# Altium schematic symbol library SparkFun-Switches.SCHLIB: 119 symbols (part 2 of 4)
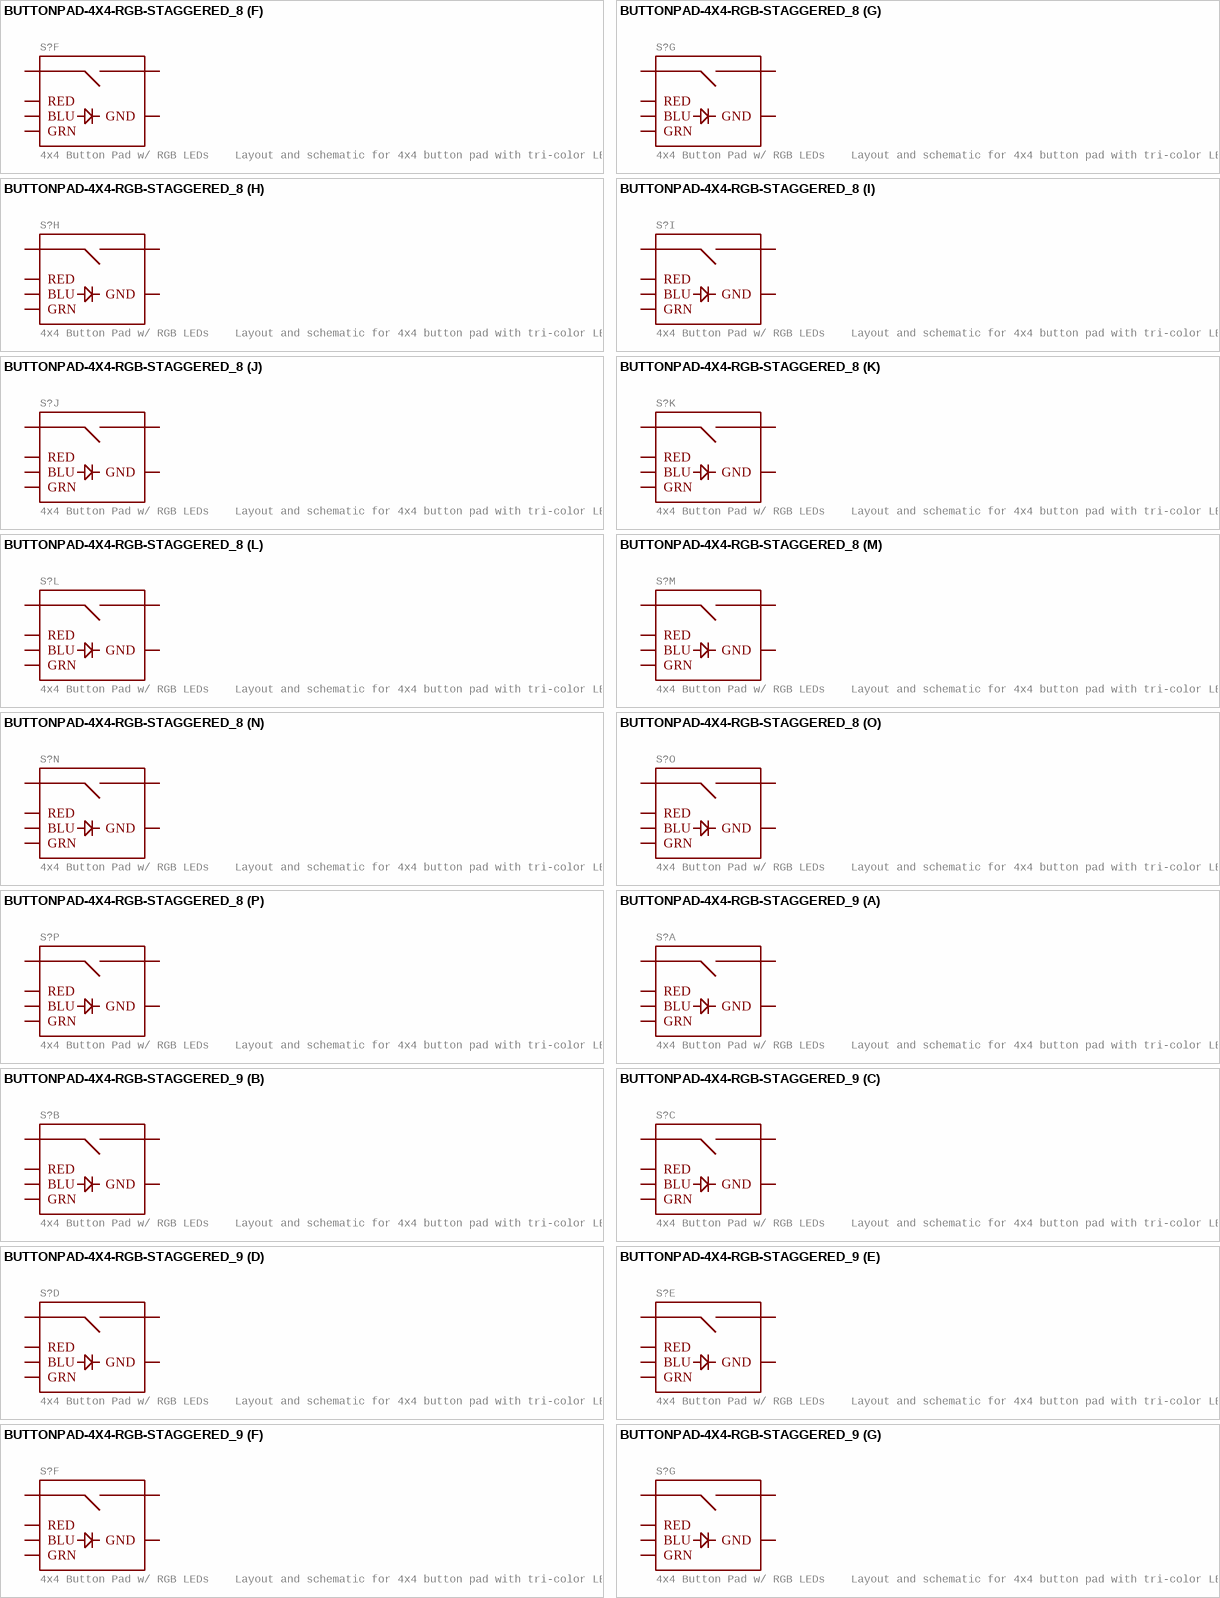
[diagram p36: symbols BUTTONPAD-4X4-RGB-STAGGERED_8 to BUTTONPAD-4X4-RGB-STAGGERED_9]

## BUTTONPAD-4X4-RGB-STAGGERED_8
designator S?, comment 4x4 Button Pad w/ RGB LEDs    Layout and schematic for 4x4 button pad with tri-color LEDs under each button. For use with the 4x Button Pad 2x2 - LED Compatible and 4x Button Pad 2x2 Top Bezel.   Any RGB 5mm LED should be compatible. SparkFun Products  SparkFun Simon Says - Through-Hole Soldering Kit (KIT-10547)  Button Pad 2x2 - Breakout PCB (COM-09277)
GateName_1: G$0; SymbolName_1: BUTTONPAD-RGB; GateName_2: G$1; GateName_3: G$2; GateName_4: G$3; GateName_5: G$4; GateName_6: G$5; GateName_7: G$6; GateName_8: G$7; GateName_9: G$8; GateName_10: G$9; GateName_11: G$10; GateName_12: G$11; GateName_13: G$12; GateName_14: G$13; GateName_15: G$14; GateName_16: G$15; DeviceName: -STAGGERED; DeviceSetName: BUTTONPAD-4X4-RGB; PROD_ID: COMP-08481; SF_SKU: COM-07836; SymbolName_2: BUTTONPAD-RGB; SymbolName_3: BUTTONPAD-RGB; SymbolName_4: BUTTONPAD-RGB; SymbolName_5: BUTTONPAD-RGB; SymbolName_6: BUTTONPAD-RGB; SymbolName_7: BUTTONPAD-RGB; SymbolName_8: BUTTONPAD-RGB; SymbolName_9: BUTTONPAD-RGB; SymbolName_10: BUTTONPAD-RGB; SymbolName_11: BUTTONPAD-RGB; SymbolName_12: BUTTONPAD-RGB; SymbolName_13: BUTTONPAD-RGB; SymbolName_14: BUTTONPAD-RGB; SymbolName_15: BUTTONPAD-RGB; SymbolName_16: BUTTONPAD-RGB; LibraryName: SparkFun-Switches; Package: BUTTONPAD-4X4-STAGGERED
footprint BUTTONPAD-4X4-STAGGERED
part A pins: BLU0 BLU (io), GND0 GND (io), GRN0 GRN (io), RED0 RED (io), SIG0 SIG1 (io), SIG1 SIG2 (io)
part B pins: BLU1 BLU (io), GND1 GND (io), GRN1 GRN (io), RED1 RED (io), SIG2 SIG1 (io), SIG3 SIG2 (io)
part C pins: BLU2 BLU (io), GND2 GND (io), GRN2 GRN (io), RED2 RED (io), SIG4 SIG1 (io), SIG5 SIG2 (io)
part D pins: BLU3 BLU (io), GND3 GND (io), GRN3 GRN (io), RED3 RED (io), SIG6 SIG1 (io), SIG7 SIG2 (io)
part E pins: BLU4 BLU (io), GND4 GND (io), GRN4 GRN (io), RED4 RED (io), SIG8 SIG1 (io), SIG9 SIG2 (io)
part F pins: BLU5 BLU (io), GND5 GND (io), GRN6 GRN (io), RED5 RED (io), SIG10 SIG1 (io), SIG11 SIG2 (io)
part G pins: BLU6 BLU (io), GND6 GND (io), GRN5 GRN (io), RED6 RED (io), SIG12 SIG1 (io), SIG13 SIG2 (io)
part H pins: BLU7 BLU (io), GND7 GND (io), GRN7 GRN (io), RED7 RED (io), SIG14 SIG1 (io), SIG15 SIG2 (io)
part I pins: BLU8 BLU (io), GND8 GND (io), GRN8 GRN (io), RED8 RED (io), SIG16 SIG1 (io), SIG17 SIG2 (io)
part J pins: BLU9 BLU (io), GND9 GND (io), GRN9 GRN (io), RED9 RED (io), SIG18 SIG1 (io), SIG19 SIG2 (io)
part K pins: BLU10 BLU (io), GND10 GND (io), GRN10 GRN (io), RED10 RED (io), SIG20 SIG1 (io), SIG21 SIG2 (io)
part L pins: BLU11 BLU (io), GND11 GND (io), GRN11 GRN (io), RED11 RED (io), SIG22 SIG1 (io), SIG23 SIG2 (io)
part M pins: BLU12 BLU (io), GND12 GND (io), GRN12 GRN (io), RED12 RED (io), SIG24 SIG1 (io), SIG25 SIG2 (io)
part N pins: BLU13 BLU (io), GND13 GND (io), GRN13 GRN (io), RED13 RED (io), SIG26 SIG1 (io), SIG27 SIG2 (io)
part O pins: BLU14 BLU (io), GND14 GND (io), GRN14 GRN (io), RED14 RED (io), SIG28 SIG1 (io), SIG29 SIG2 (io)
part P pins: BLU15 BLU (io), GND15 GND (io), GRN15 GRN (io), RED15 RED (io), SIG30 SIG1 (io), SIG31 SIG2 (io)

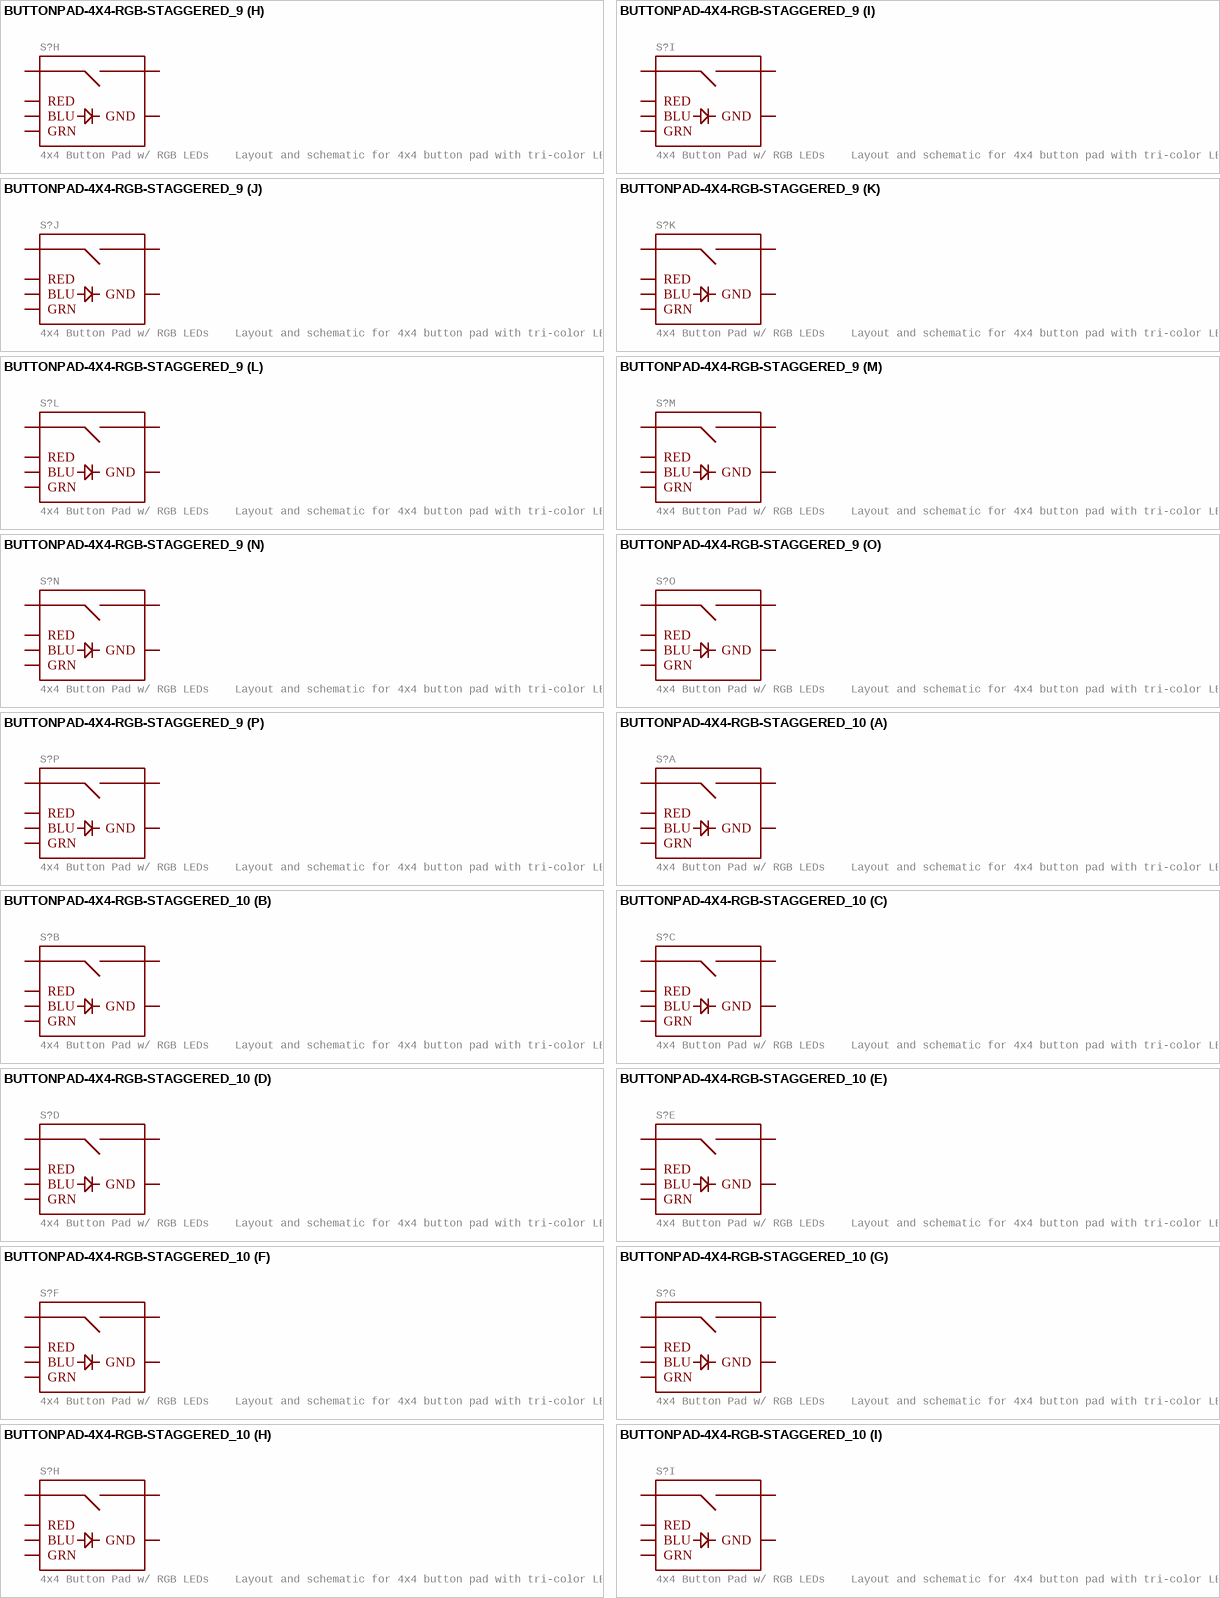
[diagram p13: symbols BUTTONPAD-4X4-RGB-STAGGERED_9 to BUTTONPAD-4X4-RGB-STAGGERED_10]

## BUTTONPAD-4X4-RGB-STAGGERED_9
designator S?, comment 4x4 Button Pad w/ RGB LEDs    Layout and schematic for 4x4 button pad with tri-color LEDs under each button. For use with the 4x Button Pad 2x2 - LED Compatible and 4x Button Pad 2x2 Top Bezel.   Any RGB 5mm LED should be compatible. SparkFun Products  SparkFun Simon Says - Through-Hole Soldering Kit (KIT-10547)  Button Pad 2x2 - Breakout PCB (COM-09277)
GateName_1: G$0; SymbolName_1: BUTTONPAD-RGB; GateName_2: G$1; GateName_3: G$2; GateName_4: G$3; GateName_5: G$4; GateName_6: G$5; GateName_7: G$6; GateName_8: G$7; GateName_9: G$8; GateName_10: G$9; GateName_11: G$10; GateName_12: G$11; GateName_13: G$12; GateName_14: G$13; GateName_15: G$14; GateName_16: G$15; DeviceName: -STAGGERED; DeviceSetName: BUTTONPAD-4X4-RGB; PROD_ID: COMP-08481; SF_SKU: COM-07836; SymbolName_2: BUTTONPAD-RGB; SymbolName_3: BUTTONPAD-RGB; SymbolName_4: BUTTONPAD-RGB; SymbolName_5: BUTTONPAD-RGB; SymbolName_6: BUTTONPAD-RGB; SymbolName_7: BUTTONPAD-RGB; SymbolName_8: BUTTONPAD-RGB; SymbolName_9: BUTTONPAD-RGB; SymbolName_10: BUTTONPAD-RGB; SymbolName_11: BUTTONPAD-RGB; SymbolName_12: BUTTONPAD-RGB; SymbolName_13: BUTTONPAD-RGB; SymbolName_14: BUTTONPAD-RGB; SymbolName_15: BUTTONPAD-RGB; SymbolName_16: BUTTONPAD-RGB; LibraryName: SparkFun-Switches; Package: BUTTONPAD-4X4-STAGGERED
footprint BUTTONPAD-4X4-STAGGERED
part A pins: BLU0 BLU (io), GND0 GND (io), GRN0 GRN (io), RED0 RED (io), SIG0 SIG1 (io), SIG1 SIG2 (io)
part B pins: BLU1 BLU (io), GND1 GND (io), GRN1 GRN (io), RED1 RED (io), SIG2 SIG1 (io), SIG3 SIG2 (io)
part C pins: BLU2 BLU (io), GND2 GND (io), GRN2 GRN (io), RED2 RED (io), SIG4 SIG1 (io), SIG5 SIG2 (io)
part D pins: BLU3 BLU (io), GND3 GND (io), GRN3 GRN (io), RED3 RED (io), SIG6 SIG1 (io), SIG7 SIG2 (io)
part E pins: BLU4 BLU (io), GND4 GND (io), GRN4 GRN (io), RED4 RED (io), SIG8 SIG1 (io), SIG9 SIG2 (io)
part F pins: BLU5 BLU (io), GND5 GND (io), GRN6 GRN (io), RED5 RED (io), SIG10 SIG1 (io), SIG11 SIG2 (io)
part G pins: BLU6 BLU (io), GND6 GND (io), GRN5 GRN (io), RED6 RED (io), SIG12 SIG1 (io), SIG13 SIG2 (io)
part H pins: BLU7 BLU (io), GND7 GND (io), GRN7 GRN (io), RED7 RED (io), SIG14 SIG1 (io), SIG15 SIG2 (io)
part I pins: BLU8 BLU (io), GND8 GND (io), GRN8 GRN (io), RED8 RED (io), SIG16 SIG1 (io), SIG17 SIG2 (io)
part J pins: BLU9 BLU (io), GND9 GND (io), GRN9 GRN (io), RED9 RED (io), SIG18 SIG1 (io), SIG19 SIG2 (io)
part K pins: BLU10 BLU (io), GND10 GND (io), GRN10 GRN (io), RED10 RED (io), SIG20 SIG1 (io), SIG21 SIG2 (io)
part L pins: BLU11 BLU (io), GND11 GND (io), GRN11 GRN (io), RED11 RED (io), SIG22 SIG1 (io), SIG23 SIG2 (io)
part M pins: BLU12 BLU (io), GND12 GND (io), GRN12 GRN (io), RED12 RED (io), SIG24 SIG1 (io), SIG25 SIG2 (io)
part N pins: BLU13 BLU (io), GND13 GND (io), GRN13 GRN (io), RED13 RED (io), SIG26 SIG1 (io), SIG27 SIG2 (io)
part O pins: BLU14 BLU (io), GND14 GND (io), GRN14 GRN (io), RED14 RED (io), SIG28 SIG1 (io), SIG29 SIG2 (io)
part P pins: BLU15 BLU (io), GND15 GND (io), GRN15 GRN (io), RED15 RED (io), SIG30 SIG1 (io), SIG31 SIG2 (io)

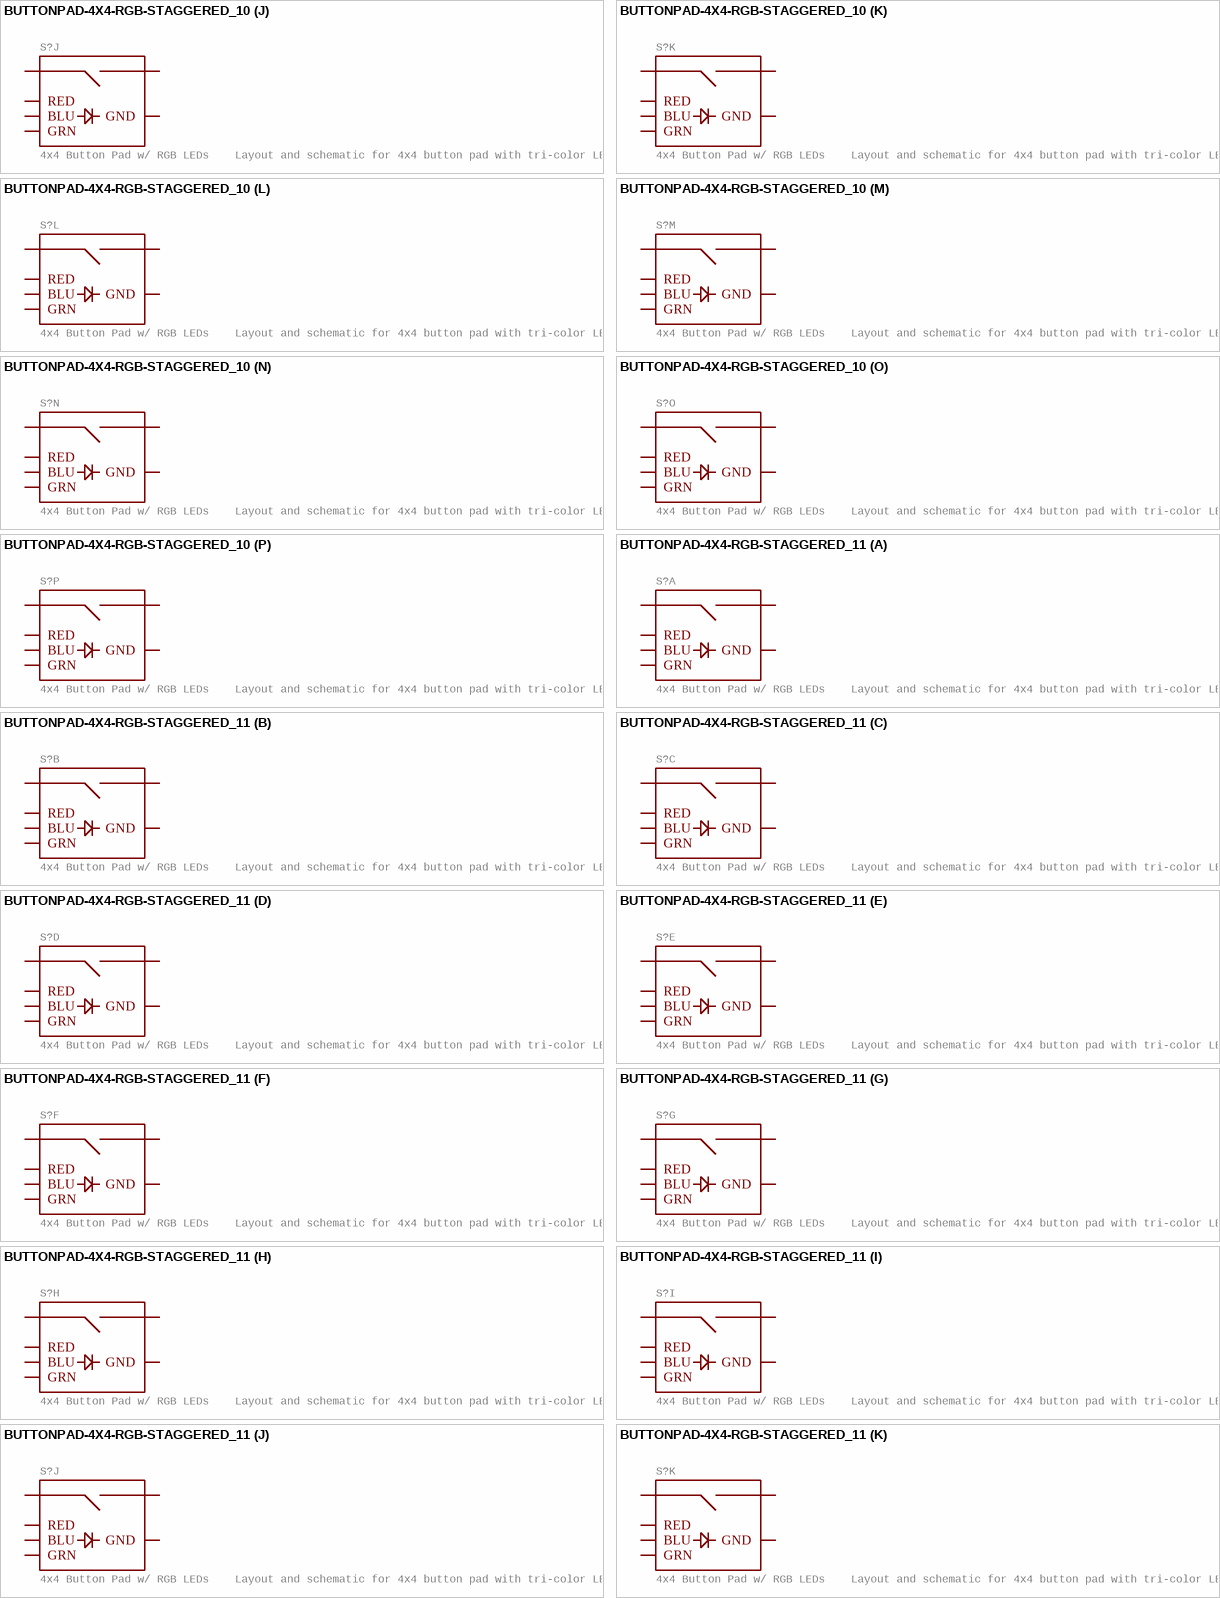
[diagram p14: symbols BUTTONPAD-4X4-RGB-STAGGERED_10 to BUTTONPAD-4X4-RGB-STAGGERED_11]

## BUTTONPAD-4X4-RGB-STAGGERED_10
designator S?, comment 4x4 Button Pad w/ RGB LEDs    Layout and schematic for 4x4 button pad with tri-color LEDs under each button. For use with the 4x Button Pad 2x2 - LED Compatible and 4x Button Pad 2x2 Top Bezel.   Any RGB 5mm LED should be compatible. SparkFun Products  SparkFun Simon Says - Through-Hole Soldering Kit (KIT-10547)  Button Pad 2x2 - Breakout PCB (COM-09277)
GateName_1: G$0; SymbolName_1: BUTTONPAD-RGB; GateName_2: G$1; GateName_3: G$2; GateName_4: G$3; GateName_5: G$4; GateName_6: G$5; GateName_7: G$6; GateName_8: G$7; GateName_9: G$8; GateName_10: G$9; GateName_11: G$10; GateName_12: G$11; GateName_13: G$12; GateName_14: G$13; GateName_15: G$14; GateName_16: G$15; DeviceName: -STAGGERED; DeviceSetName: BUTTONPAD-4X4-RGB; PROD_ID: COMP-08481; SF_SKU: COM-07836; SymbolName_2: BUTTONPAD-RGB; SymbolName_3: BUTTONPAD-RGB; SymbolName_4: BUTTONPAD-RGB; SymbolName_5: BUTTONPAD-RGB; SymbolName_6: BUTTONPAD-RGB; SymbolName_7: BUTTONPAD-RGB; SymbolName_8: BUTTONPAD-RGB; SymbolName_9: BUTTONPAD-RGB; SymbolName_10: BUTTONPAD-RGB; SymbolName_11: BUTTONPAD-RGB; SymbolName_12: BUTTONPAD-RGB; SymbolName_13: BUTTONPAD-RGB; SymbolName_14: BUTTONPAD-RGB; SymbolName_15: BUTTONPAD-RGB; SymbolName_16: BUTTONPAD-RGB; LibraryName: SparkFun-Switches; Package: BUTTONPAD-4X4-STAGGERED
footprint BUTTONPAD-4X4-STAGGERED
part A pins: BLU0 BLU (io), GND0 GND (io), GRN0 GRN (io), RED0 RED (io), SIG0 SIG1 (io), SIG1 SIG2 (io)
part B pins: BLU1 BLU (io), GND1 GND (io), GRN1 GRN (io), RED1 RED (io), SIG2 SIG1 (io), SIG3 SIG2 (io)
part C pins: BLU2 BLU (io), GND2 GND (io), GRN2 GRN (io), RED2 RED (io), SIG4 SIG1 (io), SIG5 SIG2 (io)
part D pins: BLU3 BLU (io), GND3 GND (io), GRN3 GRN (io), RED3 RED (io), SIG6 SIG1 (io), SIG7 SIG2 (io)
part E pins: BLU4 BLU (io), GND4 GND (io), GRN4 GRN (io), RED4 RED (io), SIG8 SIG1 (io), SIG9 SIG2 (io)
part F pins: BLU5 BLU (io), GND5 GND (io), GRN6 GRN (io), RED5 RED (io), SIG10 SIG1 (io), SIG11 SIG2 (io)
part G pins: BLU6 BLU (io), GND6 GND (io), GRN5 GRN (io), RED6 RED (io), SIG12 SIG1 (io), SIG13 SIG2 (io)
part H pins: BLU7 BLU (io), GND7 GND (io), GRN7 GRN (io), RED7 RED (io), SIG14 SIG1 (io), SIG15 SIG2 (io)
part I pins: BLU8 BLU (io), GND8 GND (io), GRN8 GRN (io), RED8 RED (io), SIG16 SIG1 (io), SIG17 SIG2 (io)
part J pins: BLU9 BLU (io), GND9 GND (io), GRN9 GRN (io), RED9 RED (io), SIG18 SIG1 (io), SIG19 SIG2 (io)
part K pins: BLU10 BLU (io), GND10 GND (io), GRN10 GRN (io), RED10 RED (io), SIG20 SIG1 (io), SIG21 SIG2 (io)
part L pins: BLU11 BLU (io), GND11 GND (io), GRN11 GRN (io), RED11 RED (io), SIG22 SIG1 (io), SIG23 SIG2 (io)
part M pins: BLU12 BLU (io), GND12 GND (io), GRN12 GRN (io), RED12 RED (io), SIG24 SIG1 (io), SIG25 SIG2 (io)
part N pins: BLU13 BLU (io), GND13 GND (io), GRN13 GRN (io), RED13 RED (io), SIG26 SIG1 (io), SIG27 SIG2 (io)
part O pins: BLU14 BLU (io), GND14 GND (io), GRN14 GRN (io), RED14 RED (io), SIG28 SIG1 (io), SIG29 SIG2 (io)
part P pins: BLU15 BLU (io), GND15 GND (io), GRN15 GRN (io), RED15 RED (io), SIG30 SIG1 (io), SIG31 SIG2 (io)

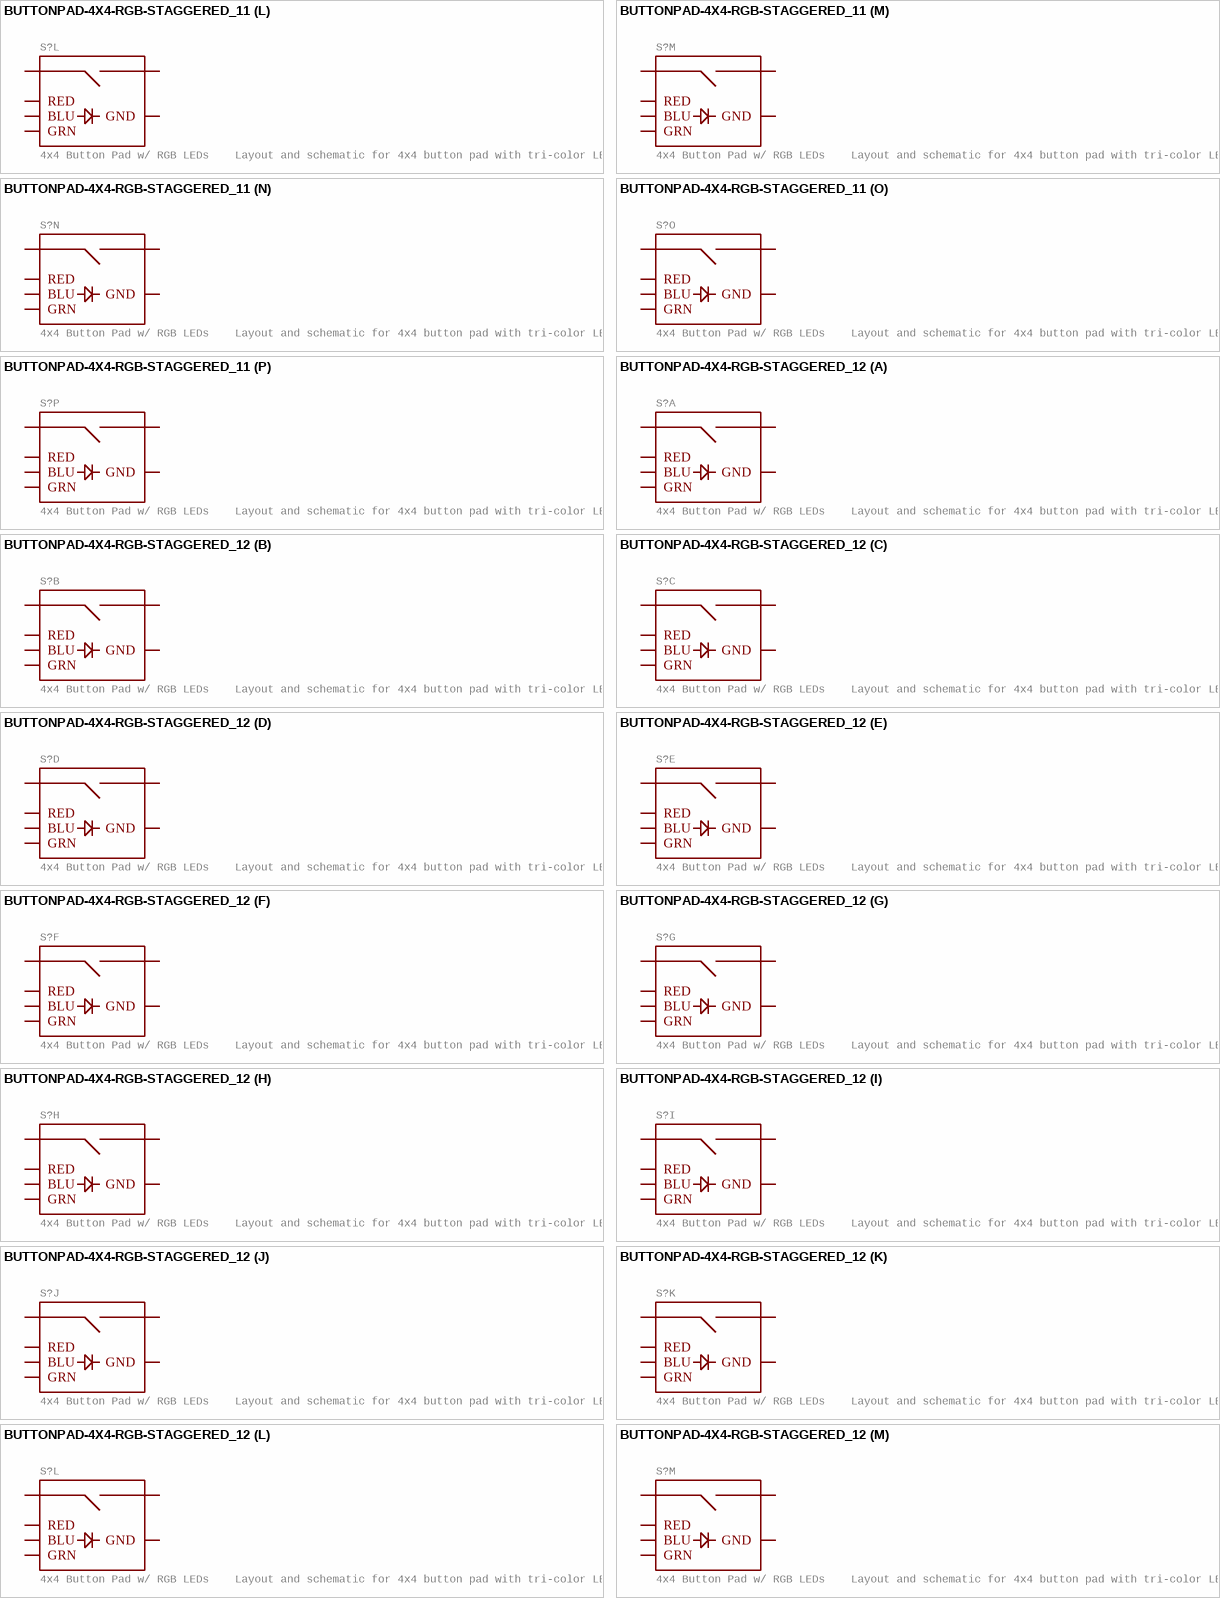
[diagram p15: symbols BUTTONPAD-4X4-RGB-STAGGERED_11 to BUTTONPAD-4X4-RGB-STAGGERED_12]

## BUTTONPAD-4X4-RGB-STAGGERED_11
designator S?, comment 4x4 Button Pad w/ RGB LEDs    Layout and schematic for 4x4 button pad with tri-color LEDs under each button. For use with the 4x Button Pad 2x2 - LED Compatible and 4x Button Pad 2x2 Top Bezel.   Any RGB 5mm LED should be compatible. SparkFun Products  SparkFun Simon Says - Through-Hole Soldering Kit (KIT-10547)  Button Pad 2x2 - Breakout PCB (COM-09277)
GateName_1: G$0; SymbolName_1: BUTTONPAD-RGB; GateName_2: G$1; GateName_3: G$2; GateName_4: G$3; GateName_5: G$4; GateName_6: G$5; GateName_7: G$6; GateName_8: G$7; GateName_9: G$8; GateName_10: G$9; GateName_11: G$10; GateName_12: G$11; GateName_13: G$12; GateName_14: G$13; GateName_15: G$14; GateName_16: G$15; DeviceName: -STAGGERED; DeviceSetName: BUTTONPAD-4X4-RGB; PROD_ID: COMP-08481; SF_SKU: COM-07836; SymbolName_2: BUTTONPAD-RGB; SymbolName_3: BUTTONPAD-RGB; SymbolName_4: BUTTONPAD-RGB; SymbolName_5: BUTTONPAD-RGB; SymbolName_6: BUTTONPAD-RGB; SymbolName_7: BUTTONPAD-RGB; SymbolName_8: BUTTONPAD-RGB; SymbolName_9: BUTTONPAD-RGB; SymbolName_10: BUTTONPAD-RGB; SymbolName_11: BUTTONPAD-RGB; SymbolName_12: BUTTONPAD-RGB; SymbolName_13: BUTTONPAD-RGB; SymbolName_14: BUTTONPAD-RGB; SymbolName_15: BUTTONPAD-RGB; SymbolName_16: BUTTONPAD-RGB; LibraryName: SparkFun-Switches; Package: BUTTONPAD-4X4-STAGGERED
footprint BUTTONPAD-4X4-STAGGERED
part A pins: BLU0 BLU (io), GND0 GND (io), GRN0 GRN (io), RED0 RED (io), SIG0 SIG1 (io), SIG1 SIG2 (io)
part B pins: BLU1 BLU (io), GND1 GND (io), GRN1 GRN (io), RED1 RED (io), SIG2 SIG1 (io), SIG3 SIG2 (io)
part C pins: BLU2 BLU (io), GND2 GND (io), GRN2 GRN (io), RED2 RED (io), SIG4 SIG1 (io), SIG5 SIG2 (io)
part D pins: BLU3 BLU (io), GND3 GND (io), GRN3 GRN (io), RED3 RED (io), SIG6 SIG1 (io), SIG7 SIG2 (io)
part E pins: BLU4 BLU (io), GND4 GND (io), GRN4 GRN (io), RED4 RED (io), SIG8 SIG1 (io), SIG9 SIG2 (io)
part F pins: BLU5 BLU (io), GND5 GND (io), GRN6 GRN (io), RED5 RED (io), SIG10 SIG1 (io), SIG11 SIG2 (io)
part G pins: BLU6 BLU (io), GND6 GND (io), GRN5 GRN (io), RED6 RED (io), SIG12 SIG1 (io), SIG13 SIG2 (io)
part H pins: BLU7 BLU (io), GND7 GND (io), GRN7 GRN (io), RED7 RED (io), SIG14 SIG1 (io), SIG15 SIG2 (io)
part I pins: BLU8 BLU (io), GND8 GND (io), GRN8 GRN (io), RED8 RED (io), SIG16 SIG1 (io), SIG17 SIG2 (io)
part J pins: BLU9 BLU (io), GND9 GND (io), GRN9 GRN (io), RED9 RED (io), SIG18 SIG1 (io), SIG19 SIG2 (io)
part K pins: BLU10 BLU (io), GND10 GND (io), GRN10 GRN (io), RED10 RED (io), SIG20 SIG1 (io), SIG21 SIG2 (io)
part L pins: BLU11 BLU (io), GND11 GND (io), GRN11 GRN (io), RED11 RED (io), SIG22 SIG1 (io), SIG23 SIG2 (io)
part M pins: BLU12 BLU (io), GND12 GND (io), GRN12 GRN (io), RED12 RED (io), SIG24 SIG1 (io), SIG25 SIG2 (io)
part N pins: BLU13 BLU (io), GND13 GND (io), GRN13 GRN (io), RED13 RED (io), SIG26 SIG1 (io), SIG27 SIG2 (io)
part O pins: BLU14 BLU (io), GND14 GND (io), GRN14 GRN (io), RED14 RED (io), SIG28 SIG1 (io), SIG29 SIG2 (io)
part P pins: BLU15 BLU (io), GND15 GND (io), GRN15 GRN (io), RED15 RED (io), SIG30 SIG1 (io), SIG31 SIG2 (io)

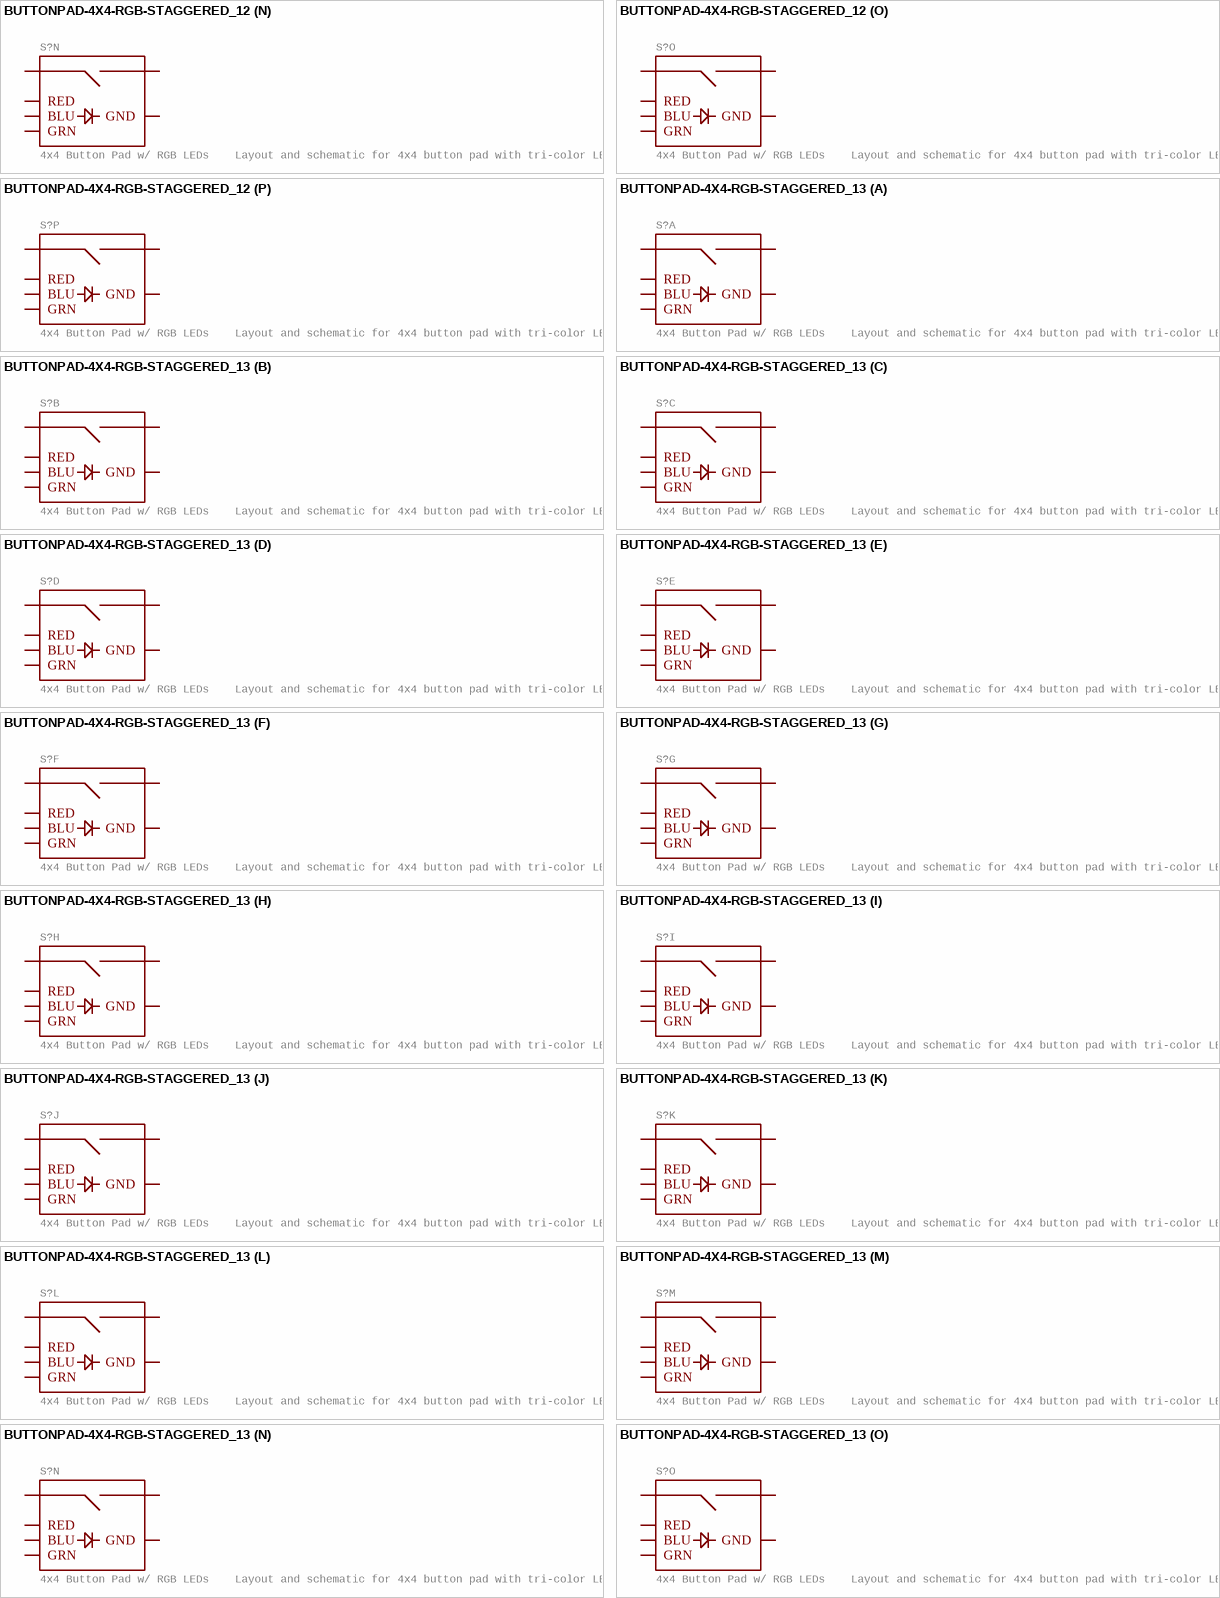
[diagram p16: symbols BUTTONPAD-4X4-RGB-STAGGERED_12 to BUTTONPAD-4X4-RGB-STAGGERED_13]

## BUTTONPAD-4X4-RGB-STAGGERED_12
designator S?, comment 4x4 Button Pad w/ RGB LEDs    Layout and schematic for 4x4 button pad with tri-color LEDs under each button. For use with the 4x Button Pad 2x2 - LED Compatible and 4x Button Pad 2x2 Top Bezel.   Any RGB 5mm LED should be compatible. SparkFun Products  SparkFun Simon Says - Through-Hole Soldering Kit (KIT-10547)  Button Pad 2x2 - Breakout PCB (COM-09277)
GateName_1: G$0; SymbolName_1: BUTTONPAD-RGB; GateName_2: G$1; GateName_3: G$2; GateName_4: G$3; GateName_5: G$4; GateName_6: G$5; GateName_7: G$6; GateName_8: G$7; GateName_9: G$8; GateName_10: G$9; GateName_11: G$10; GateName_12: G$11; GateName_13: G$12; GateName_14: G$13; GateName_15: G$14; GateName_16: G$15; DeviceName: -STAGGERED; DeviceSetName: BUTTONPAD-4X4-RGB; PROD_ID: COMP-08481; SF_SKU: COM-07836; SymbolName_2: BUTTONPAD-RGB; SymbolName_3: BUTTONPAD-RGB; SymbolName_4: BUTTONPAD-RGB; SymbolName_5: BUTTONPAD-RGB; SymbolName_6: BUTTONPAD-RGB; SymbolName_7: BUTTONPAD-RGB; SymbolName_8: BUTTONPAD-RGB; SymbolName_9: BUTTONPAD-RGB; SymbolName_10: BUTTONPAD-RGB; SymbolName_11: BUTTONPAD-RGB; SymbolName_12: BUTTONPAD-RGB; SymbolName_13: BUTTONPAD-RGB; SymbolName_14: BUTTONPAD-RGB; SymbolName_15: BUTTONPAD-RGB; SymbolName_16: BUTTONPAD-RGB; LibraryName: SparkFun-Switches; Package: BUTTONPAD-4X4-STAGGERED
footprint BUTTONPAD-4X4-STAGGERED
part A pins: BLU0 BLU (io), GND0 GND (io), GRN0 GRN (io), RED0 RED (io), SIG0 SIG1 (io), SIG1 SIG2 (io)
part B pins: BLU1 BLU (io), GND1 GND (io), GRN1 GRN (io), RED1 RED (io), SIG2 SIG1 (io), SIG3 SIG2 (io)
part C pins: BLU2 BLU (io), GND2 GND (io), GRN2 GRN (io), RED2 RED (io), SIG4 SIG1 (io), SIG5 SIG2 (io)
part D pins: BLU3 BLU (io), GND3 GND (io), GRN3 GRN (io), RED3 RED (io), SIG6 SIG1 (io), SIG7 SIG2 (io)
part E pins: BLU4 BLU (io), GND4 GND (io), GRN4 GRN (io), RED4 RED (io), SIG8 SIG1 (io), SIG9 SIG2 (io)
part F pins: BLU5 BLU (io), GND5 GND (io), GRN6 GRN (io), RED5 RED (io), SIG10 SIG1 (io), SIG11 SIG2 (io)
part G pins: BLU6 BLU (io), GND6 GND (io), GRN5 GRN (io), RED6 RED (io), SIG12 SIG1 (io), SIG13 SIG2 (io)
part H pins: BLU7 BLU (io), GND7 GND (io), GRN7 GRN (io), RED7 RED (io), SIG14 SIG1 (io), SIG15 SIG2 (io)
part I pins: BLU8 BLU (io), GND8 GND (io), GRN8 GRN (io), RED8 RED (io), SIG16 SIG1 (io), SIG17 SIG2 (io)
part J pins: BLU9 BLU (io), GND9 GND (io), GRN9 GRN (io), RED9 RED (io), SIG18 SIG1 (io), SIG19 SIG2 (io)
part K pins: BLU10 BLU (io), GND10 GND (io), GRN10 GRN (io), RED10 RED (io), SIG20 SIG1 (io), SIG21 SIG2 (io)
part L pins: BLU11 BLU (io), GND11 GND (io), GRN11 GRN (io), RED11 RED (io), SIG22 SIG1 (io), SIG23 SIG2 (io)
part M pins: BLU12 BLU (io), GND12 GND (io), GRN12 GRN (io), RED12 RED (io), SIG24 SIG1 (io), SIG25 SIG2 (io)
part N pins: BLU13 BLU (io), GND13 GND (io), GRN13 GRN (io), RED13 RED (io), SIG26 SIG1 (io), SIG27 SIG2 (io)
part O pins: BLU14 BLU (io), GND14 GND (io), GRN14 GRN (io), RED14 RED (io), SIG28 SIG1 (io), SIG29 SIG2 (io)
part P pins: BLU15 BLU (io), GND15 GND (io), GRN15 GRN (io), RED15 RED (io), SIG30 SIG1 (io), SIG31 SIG2 (io)

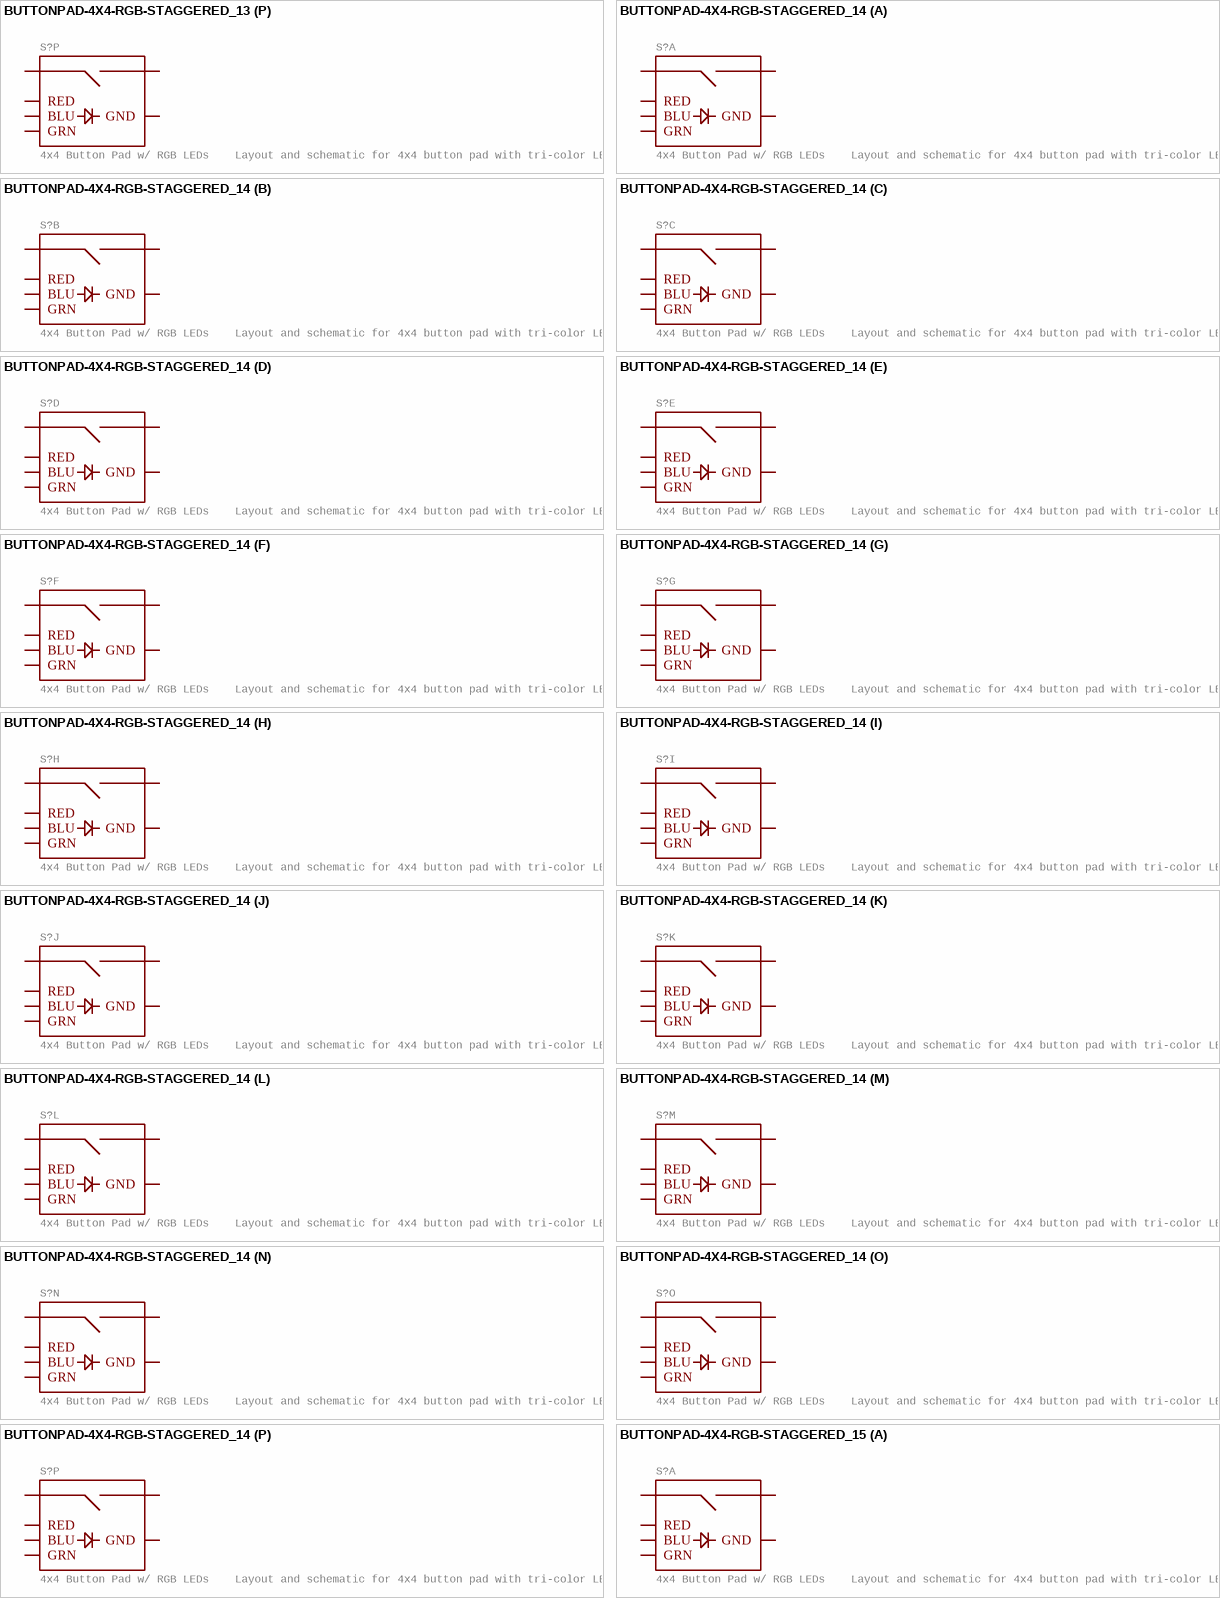
[diagram p17: symbols BUTTONPAD-4X4-RGB-STAGGERED_13 to BUTTONPAD-4X4-RGB-STAGGERED_15]

## BUTTONPAD-4X4-RGB-STAGGERED_13
designator S?, comment 4x4 Button Pad w/ RGB LEDs    Layout and schematic for 4x4 button pad with tri-color LEDs under each button. For use with the 4x Button Pad 2x2 - LED Compatible and 4x Button Pad 2x2 Top Bezel.   Any RGB 5mm LED should be compatible. SparkFun Products  SparkFun Simon Says - Through-Hole Soldering Kit (KIT-10547)  Button Pad 2x2 - Breakout PCB (COM-09277)
GateName_1: G$0; SymbolName_1: BUTTONPAD-RGB; GateName_2: G$1; GateName_3: G$2; GateName_4: G$3; GateName_5: G$4; GateName_6: G$5; GateName_7: G$6; GateName_8: G$7; GateName_9: G$8; GateName_10: G$9; GateName_11: G$10; GateName_12: G$11; GateName_13: G$12; GateName_14: G$13; GateName_15: G$14; GateName_16: G$15; DeviceName: -STAGGERED; DeviceSetName: BUTTONPAD-4X4-RGB; PROD_ID: COMP-08481; SF_SKU: COM-07836; SymbolName_2: BUTTONPAD-RGB; SymbolName_3: BUTTONPAD-RGB; SymbolName_4: BUTTONPAD-RGB; SymbolName_5: BUTTONPAD-RGB; SymbolName_6: BUTTONPAD-RGB; SymbolName_7: BUTTONPAD-RGB; SymbolName_8: BUTTONPAD-RGB; SymbolName_9: BUTTONPAD-RGB; SymbolName_10: BUTTONPAD-RGB; SymbolName_11: BUTTONPAD-RGB; SymbolName_12: BUTTONPAD-RGB; SymbolName_13: BUTTONPAD-RGB; SymbolName_14: BUTTONPAD-RGB; SymbolName_15: BUTTONPAD-RGB; SymbolName_16: BUTTONPAD-RGB; LibraryName: SparkFun-Switches; Package: BUTTONPAD-4X4-STAGGERED
footprint BUTTONPAD-4X4-STAGGERED
part A pins: BLU0 BLU (io), GND0 GND (io), GRN0 GRN (io), RED0 RED (io), SIG0 SIG1 (io), SIG1 SIG2 (io)
part B pins: BLU1 BLU (io), GND1 GND (io), GRN1 GRN (io), RED1 RED (io), SIG2 SIG1 (io), SIG3 SIG2 (io)
part C pins: BLU2 BLU (io), GND2 GND (io), GRN2 GRN (io), RED2 RED (io), SIG4 SIG1 (io), SIG5 SIG2 (io)
part D pins: BLU3 BLU (io), GND3 GND (io), GRN3 GRN (io), RED3 RED (io), SIG6 SIG1 (io), SIG7 SIG2 (io)
part E pins: BLU4 BLU (io), GND4 GND (io), GRN4 GRN (io), RED4 RED (io), SIG8 SIG1 (io), SIG9 SIG2 (io)
part F pins: BLU5 BLU (io), GND5 GND (io), GRN6 GRN (io), RED5 RED (io), SIG10 SIG1 (io), SIG11 SIG2 (io)
part G pins: BLU6 BLU (io), GND6 GND (io), GRN5 GRN (io), RED6 RED (io), SIG12 SIG1 (io), SIG13 SIG2 (io)
part H pins: BLU7 BLU (io), GND7 GND (io), GRN7 GRN (io), RED7 RED (io), SIG14 SIG1 (io), SIG15 SIG2 (io)
part I pins: BLU8 BLU (io), GND8 GND (io), GRN8 GRN (io), RED8 RED (io), SIG16 SIG1 (io), SIG17 SIG2 (io)
part J pins: BLU9 BLU (io), GND9 GND (io), GRN9 GRN (io), RED9 RED (io), SIG18 SIG1 (io), SIG19 SIG2 (io)
part K pins: BLU10 BLU (io), GND10 GND (io), GRN10 GRN (io), RED10 RED (io), SIG20 SIG1 (io), SIG21 SIG2 (io)
part L pins: BLU11 BLU (io), GND11 GND (io), GRN11 GRN (io), RED11 RED (io), SIG22 SIG1 (io), SIG23 SIG2 (io)
part M pins: BLU12 BLU (io), GND12 GND (io), GRN12 GRN (io), RED12 RED (io), SIG24 SIG1 (io), SIG25 SIG2 (io)
part N pins: BLU13 BLU (io), GND13 GND (io), GRN13 GRN (io), RED13 RED (io), SIG26 SIG1 (io), SIG27 SIG2 (io)
part O pins: BLU14 BLU (io), GND14 GND (io), GRN14 GRN (io), RED14 RED (io), SIG28 SIG1 (io), SIG29 SIG2 (io)
part P pins: BLU15 BLU (io), GND15 GND (io), GRN15 GRN (io), RED15 RED (io), SIG30 SIG1 (io), SIG31 SIG2 (io)

## BUTTONPAD-4X4-RGB-STAGGERED_14
designator S?, comment 4x4 Button Pad w/ RGB LEDs    Layout and schematic for 4x4 button pad with tri-color LEDs under each button. For use with the 4x Button Pad 2x2 - LED Compatible and 4x Button Pad 2x2 Top Bezel.   Any RGB 5mm LED should be compatible. SparkFun Products  SparkFun Simon Says - Through-Hole Soldering Kit (KIT-10547)  Button Pad 2x2 - Breakout PCB (COM-09277)
GateName_1: G$0; SymbolName_1: BUTTONPAD-RGB; GateName_2: G$1; GateName_3: G$2; GateName_4: G$3; GateName_5: G$4; GateName_6: G$5; GateName_7: G$6; GateName_8: G$7; GateName_9: G$8; GateName_10: G$9; GateName_11: G$10; GateName_12: G$11; GateName_13: G$12; GateName_14: G$13; GateName_15: G$14; GateName_16: G$15; DeviceName: -STAGGERED; DeviceSetName: BUTTONPAD-4X4-RGB; PROD_ID: COMP-08481; SF_SKU: COM-07836; SymbolName_2: BUTTONPAD-RGB; SymbolName_3: BUTTONPAD-RGB; SymbolName_4: BUTTONPAD-RGB; SymbolName_5: BUTTONPAD-RGB; SymbolName_6: BUTTONPAD-RGB; SymbolName_7: BUTTONPAD-RGB; SymbolName_8: BUTTONPAD-RGB; SymbolName_9: BUTTONPAD-RGB; SymbolName_10: BUTTONPAD-RGB; SymbolName_11: BUTTONPAD-RGB; SymbolName_12: BUTTONPAD-RGB; SymbolName_13: BUTTONPAD-RGB; SymbolName_14: BUTTONPAD-RGB; SymbolName_15: BUTTONPAD-RGB; SymbolName_16: BUTTONPAD-RGB; LibraryName: SparkFun-Switches; Package: BUTTONPAD-4X4-STAGGERED
footprint BUTTONPAD-4X4-STAGGERED
part A pins: BLU0 BLU (io), GND0 GND (io), GRN0 GRN (io), RED0 RED (io), SIG0 SIG1 (io), SIG1 SIG2 (io)
part B pins: BLU1 BLU (io), GND1 GND (io), GRN1 GRN (io), RED1 RED (io), SIG2 SIG1 (io), SIG3 SIG2 (io)
part C pins: BLU2 BLU (io), GND2 GND (io), GRN2 GRN (io), RED2 RED (io), SIG4 SIG1 (io), SIG5 SIG2 (io)
part D pins: BLU3 BLU (io), GND3 GND (io), GRN3 GRN (io), RED3 RED (io), SIG6 SIG1 (io), SIG7 SIG2 (io)
part E pins: BLU4 BLU (io), GND4 GND (io), GRN4 GRN (io), RED4 RED (io), SIG8 SIG1 (io), SIG9 SIG2 (io)
part F pins: BLU5 BLU (io), GND5 GND (io), GRN6 GRN (io), RED5 RED (io), SIG10 SIG1 (io), SIG11 SIG2 (io)
part G pins: BLU6 BLU (io), GND6 GND (io), GRN5 GRN (io), RED6 RED (io), SIG12 SIG1 (io), SIG13 SIG2 (io)
part H pins: BLU7 BLU (io), GND7 GND (io), GRN7 GRN (io), RED7 RED (io), SIG14 SIG1 (io), SIG15 SIG2 (io)
part I pins: BLU8 BLU (io), GND8 GND (io), GRN8 GRN (io), RED8 RED (io), SIG16 SIG1 (io), SIG17 SIG2 (io)
part J pins: BLU9 BLU (io), GND9 GND (io), GRN9 GRN (io), RED9 RED (io), SIG18 SIG1 (io), SIG19 SIG2 (io)
part K pins: BLU10 BLU (io), GND10 GND (io), GRN10 GRN (io), RED10 RED (io), SIG20 SIG1 (io), SIG21 SIG2 (io)
part L pins: BLU11 BLU (io), GND11 GND (io), GRN11 GRN (io), RED11 RED (io), SIG22 SIG1 (io), SIG23 SIG2 (io)
part M pins: BLU12 BLU (io), GND12 GND (io), GRN12 GRN (io), RED12 RED (io), SIG24 SIG1 (io), SIG25 SIG2 (io)
part N pins: BLU13 BLU (io), GND13 GND (io), GRN13 GRN (io), RED13 RED (io), SIG26 SIG1 (io), SIG27 SIG2 (io)
part O pins: BLU14 BLU (io), GND14 GND (io), GRN14 GRN (io), RED14 RED (io), SIG28 SIG1 (io), SIG29 SIG2 (io)
part P pins: BLU15 BLU (io), GND15 GND (io), GRN15 GRN (io), RED15 RED (io), SIG30 SIG1 (io), SIG31 SIG2 (io)

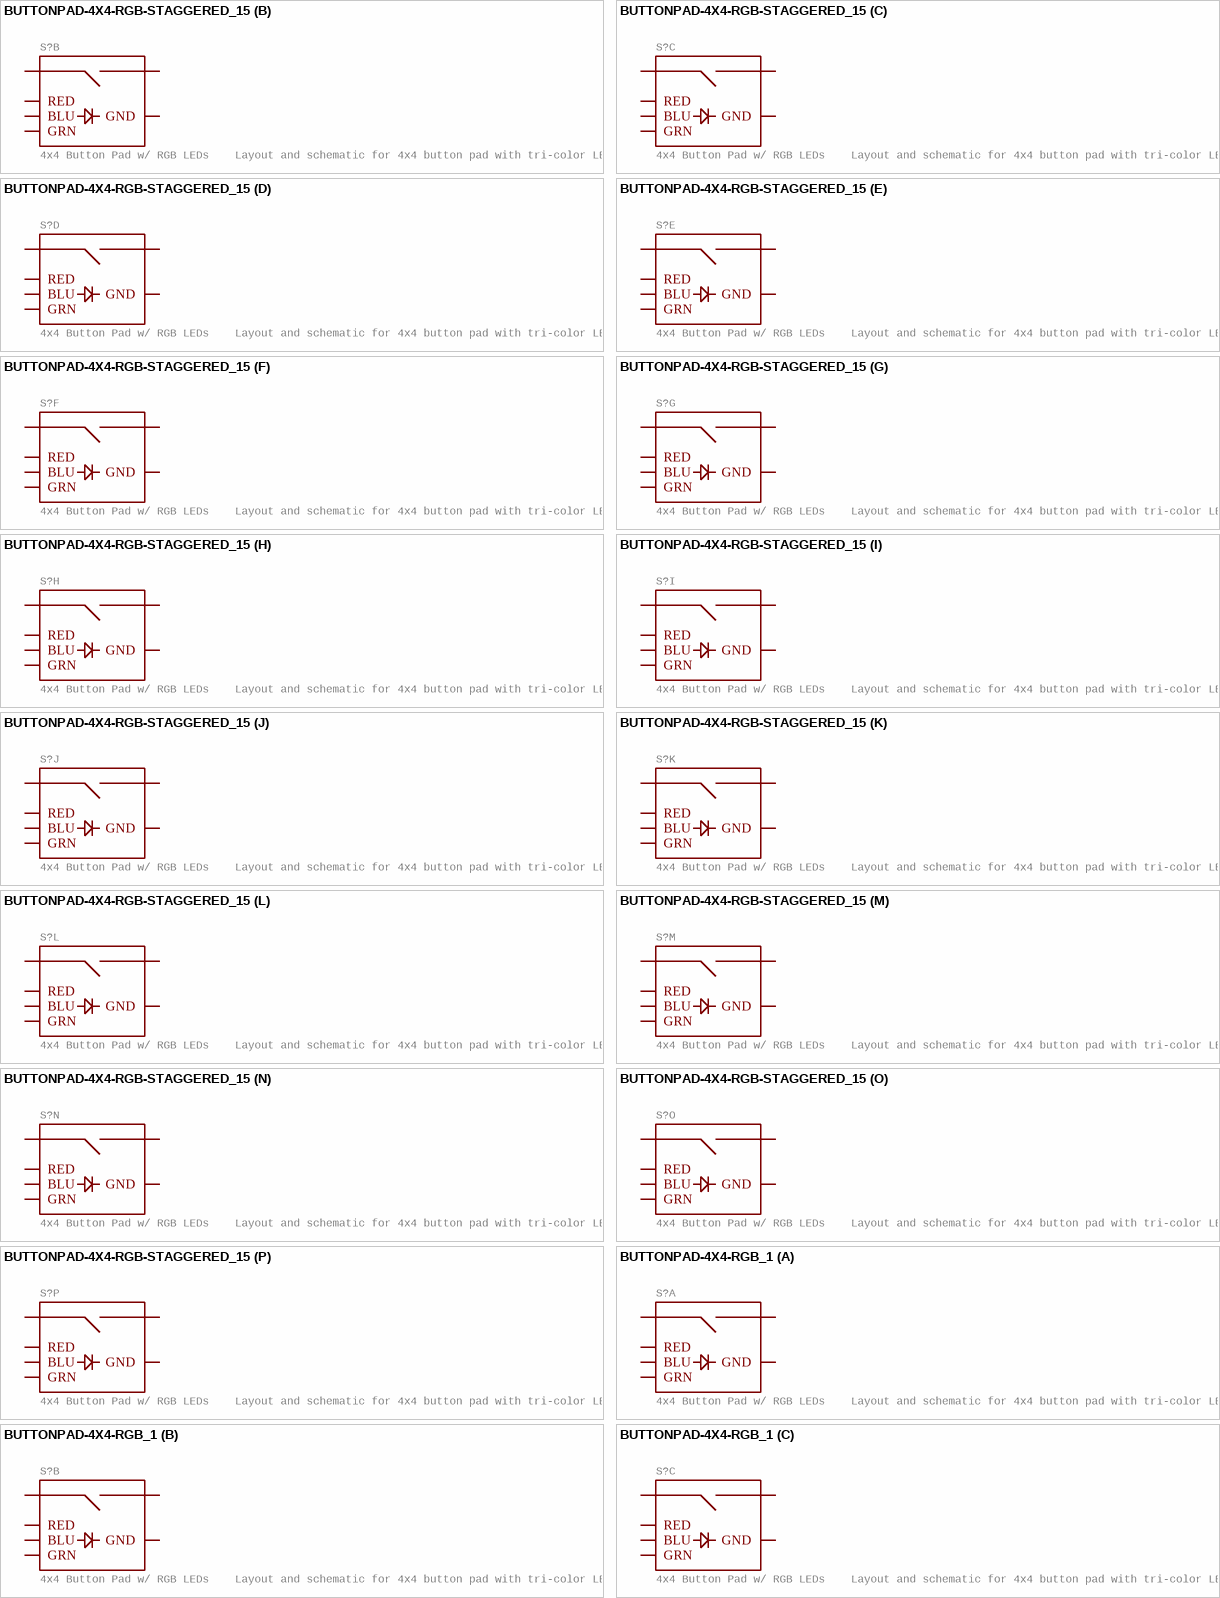
[diagram p18: symbols BUTTONPAD-4X4-RGB-STAGGERED_15 to BUTTONPAD-4X4-RGB_1]

## BUTTONPAD-4X4-RGB-STAGGERED_15
designator S?, comment 4x4 Button Pad w/ RGB LEDs    Layout and schematic for 4x4 button pad with tri-color LEDs under each button. For use with the 4x Button Pad 2x2 - LED Compatible and 4x Button Pad 2x2 Top Bezel.   Any RGB 5mm LED should be compatible. SparkFun Products  SparkFun Simon Says - Through-Hole Soldering Kit (KIT-10547)  Button Pad 2x2 - Breakout PCB (COM-09277)
GateName_1: G$0; SymbolName_1: BUTTONPAD-RGB; GateName_2: G$1; GateName_3: G$2; GateName_4: G$3; GateName_5: G$4; GateName_6: G$5; GateName_7: G$6; GateName_8: G$7; GateName_9: G$8; GateName_10: G$9; GateName_11: G$10; GateName_12: G$11; GateName_13: G$12; GateName_14: G$13; GateName_15: G$14; GateName_16: G$15; DeviceName: -STAGGERED; DeviceSetName: BUTTONPAD-4X4-RGB; PROD_ID: COMP-08481; SF_SKU: COM-07836; SymbolName_2: BUTTONPAD-RGB; SymbolName_3: BUTTONPAD-RGB; SymbolName_4: BUTTONPAD-RGB; SymbolName_5: BUTTONPAD-RGB; SymbolName_6: BUTTONPAD-RGB; SymbolName_7: BUTTONPAD-RGB; SymbolName_8: BUTTONPAD-RGB; SymbolName_9: BUTTONPAD-RGB; SymbolName_10: BUTTONPAD-RGB; SymbolName_11: BUTTONPAD-RGB; SymbolName_12: BUTTONPAD-RGB; SymbolName_13: BUTTONPAD-RGB; SymbolName_14: BUTTONPAD-RGB; SymbolName_15: BUTTONPAD-RGB; SymbolName_16: BUTTONPAD-RGB; LibraryName: SparkFun-Switches; Package: BUTTONPAD-4X4-STAGGERED
footprint BUTTONPAD-4X4-STAGGERED
part A pins: BLU0 BLU (io), GND0 GND (io), GRN0 GRN (io), RED0 RED (io), SIG0 SIG1 (io), SIG1 SIG2 (io)
part B pins: BLU1 BLU (io), GND1 GND (io), GRN1 GRN (io), RED1 RED (io), SIG2 SIG1 (io), SIG3 SIG2 (io)
part C pins: BLU2 BLU (io), GND2 GND (io), GRN2 GRN (io), RED2 RED (io), SIG4 SIG1 (io), SIG5 SIG2 (io)
part D pins: BLU3 BLU (io), GND3 GND (io), GRN3 GRN (io), RED3 RED (io), SIG6 SIG1 (io), SIG7 SIG2 (io)
part E pins: BLU4 BLU (io), GND4 GND (io), GRN4 GRN (io), RED4 RED (io), SIG8 SIG1 (io), SIG9 SIG2 (io)
part F pins: BLU5 BLU (io), GND5 GND (io), GRN6 GRN (io), RED5 RED (io), SIG10 SIG1 (io), SIG11 SIG2 (io)
part G pins: BLU6 BLU (io), GND6 GND (io), GRN5 GRN (io), RED6 RED (io), SIG12 SIG1 (io), SIG13 SIG2 (io)
part H pins: BLU7 BLU (io), GND7 GND (io), GRN7 GRN (io), RED7 RED (io), SIG14 SIG1 (io), SIG15 SIG2 (io)
part I pins: BLU8 BLU (io), GND8 GND (io), GRN8 GRN (io), RED8 RED (io), SIG16 SIG1 (io), SIG17 SIG2 (io)
part J pins: BLU9 BLU (io), GND9 GND (io), GRN9 GRN (io), RED9 RED (io), SIG18 SIG1 (io), SIG19 SIG2 (io)
part K pins: BLU10 BLU (io), GND10 GND (io), GRN10 GRN (io), RED10 RED (io), SIG20 SIG1 (io), SIG21 SIG2 (io)
part L pins: BLU11 BLU (io), GND11 GND (io), GRN11 GRN (io), RED11 RED (io), SIG22 SIG1 (io), SIG23 SIG2 (io)
part M pins: BLU12 BLU (io), GND12 GND (io), GRN12 GRN (io), RED12 RED (io), SIG24 SIG1 (io), SIG25 SIG2 (io)
part N pins: BLU13 BLU (io), GND13 GND (io), GRN13 GRN (io), RED13 RED (io), SIG26 SIG1 (io), SIG27 SIG2 (io)
part O pins: BLU14 BLU (io), GND14 GND (io), GRN14 GRN (io), RED14 RED (io), SIG28 SIG1 (io), SIG29 SIG2 (io)
part P pins: BLU15 BLU (io), GND15 GND (io), GRN15 GRN (io), RED15 RED (io), SIG30 SIG1 (io), SIG31 SIG2 (io)

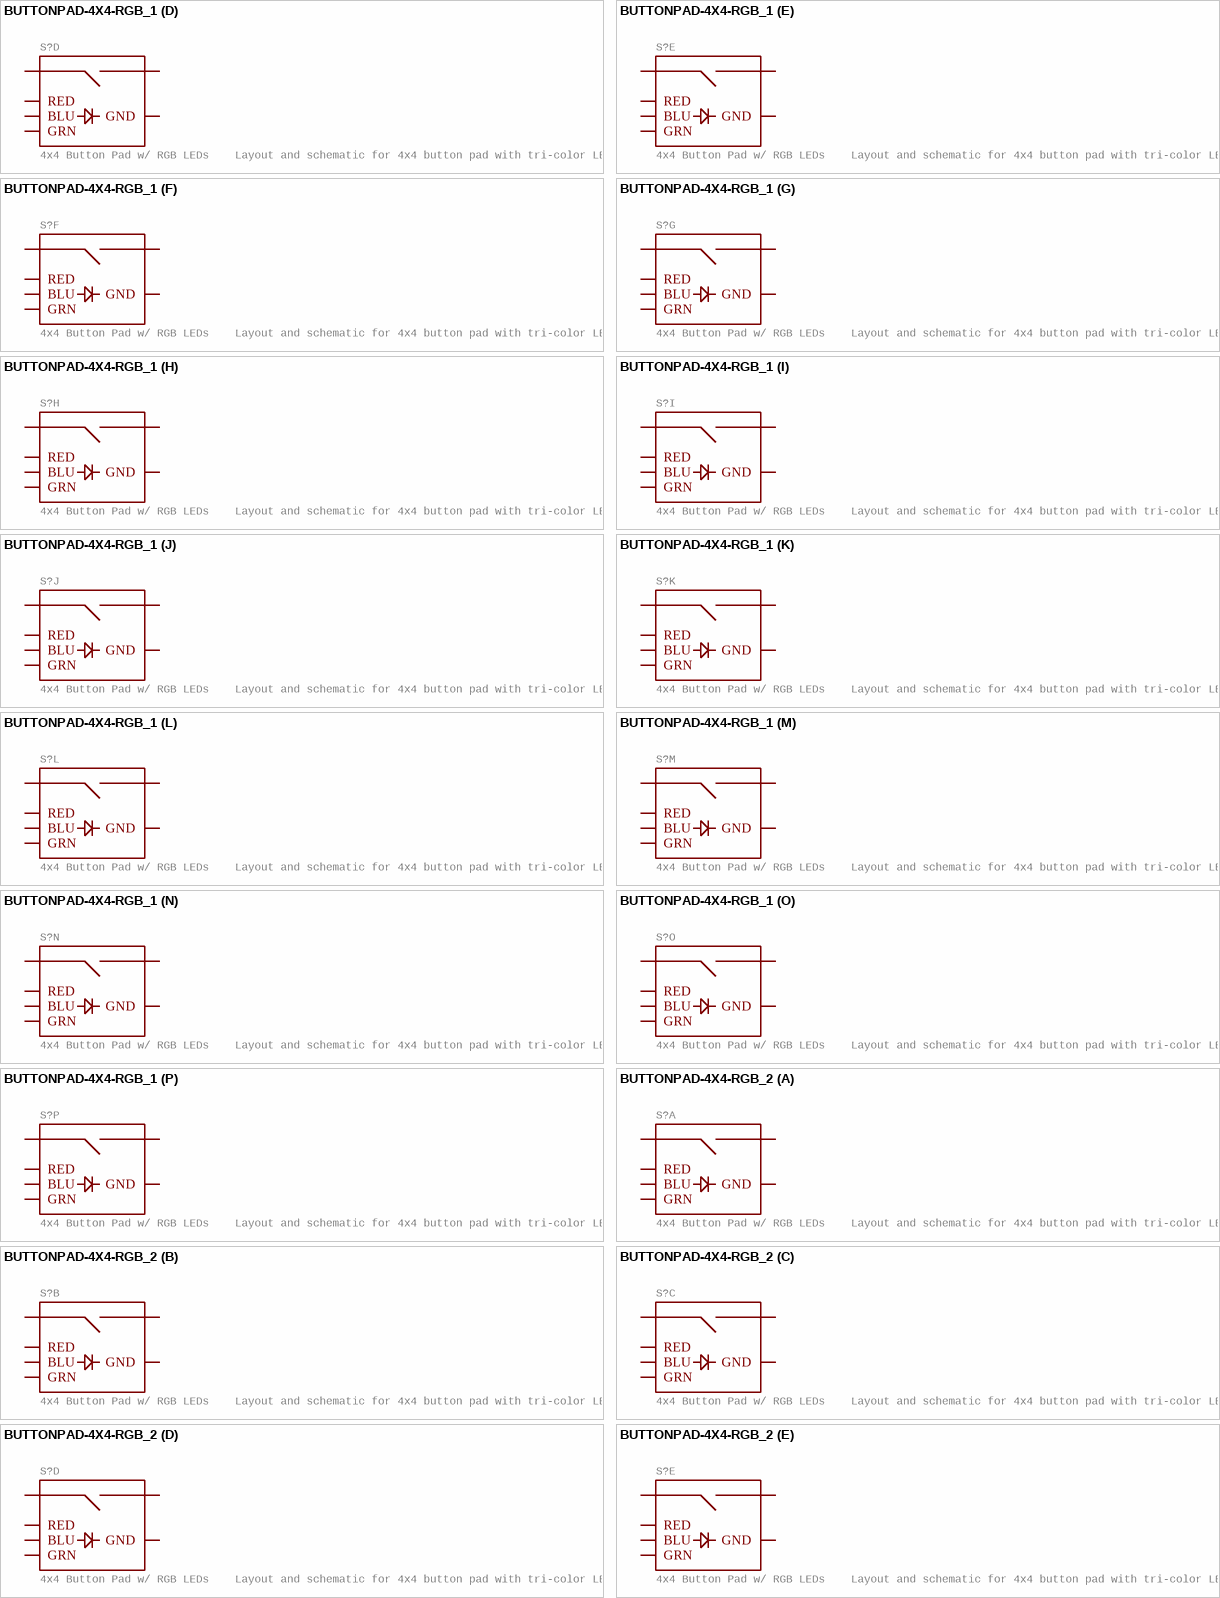
[diagram p19: symbols BUTTONPAD-4X4-RGB_1 to BUTTONPAD-4X4-RGB_2]

## BUTTONPAD-4X4-RGB_1
designator S?, comment 4x4 Button Pad w/ RGB LEDs    Layout and schematic for 4x4 button pad with tri-color LEDs under each button. For use with the 4x Button Pad 2x2 - LED Compatible and 4x Button Pad 2x2 Top Bezel.   Any RGB 5mm LED should be compatible. SparkFun Products  SparkFun Simon Says - Through-Hole Soldering Kit (KIT-10547)  Button Pad 2x2 - Breakout PCB (COM-09277)
GateName_1: G$0; SymbolName_1: BUTTONPAD-RGB; GateName_2: G$1; GateName_3: G$2; GateName_4: G$3; GateName_5: G$4; GateName_6: G$5; GateName_7: G$6; GateName_8: G$7; GateName_9: G$8; GateName_10: G$9; GateName_11: G$10; GateName_12: G$11; GateName_13: G$12; GateName_14: G$13; GateName_15: G$14; GateName_16: G$15; DeviceSetName: BUTTONPAD-4X4-RGB; PROD_ID: COMP-08481; SF_SKU: COM-07836; SymbolName_2: BUTTONPAD-RGB; SymbolName_3: BUTTONPAD-RGB; SymbolName_4: BUTTONPAD-RGB; SymbolName_5: BUTTONPAD-RGB; SymbolName_6: BUTTONPAD-RGB; SymbolName_7: BUTTONPAD-RGB; SymbolName_8: BUTTONPAD-RGB; SymbolName_9: BUTTONPAD-RGB; SymbolName_10: BUTTONPAD-RGB; SymbolName_11: BUTTONPAD-RGB; SymbolName_12: BUTTONPAD-RGB; SymbolName_13: BUTTONPAD-RGB; SymbolName_14: BUTTONPAD-RGB; SymbolName_15: BUTTONPAD-RGB; SymbolName_16: BUTTONPAD-RGB; LibraryName: SparkFun-Switches; Package: BUTTONPAD-4X4
footprint BUTTONPAD-4X4
part A pins: BLU0 BLU (io), GND0 GND (io), GRN0 GRN (io), RED0 RED (io), SIG0 SIG1 (io), SIG1 SIG2 (io)
part B pins: BLU1 BLU (io), GND1 GND (io), GRN1 GRN (io), RED1 RED (io), SIG2 SIG1 (io), SIG3 SIG2 (io)
part C pins: BLU2 BLU (io), GND2 GND (io), GRN2 GRN (io), RED2 RED (io), SIG4 SIG1 (io), SIG5 SIG2 (io)
part D pins: BLU3 BLU (io), GND3 GND (io), GRN3 GRN (io), RED3 RED (io), SIG6 SIG1 (io), SIG7 SIG2 (io)
part E pins: BLU4 BLU (io), GND4 GND (io), GRN4 GRN (io), RED4 RED (io), SIG8 SIG1 (io), SIG9 SIG2 (io)
part F pins: BLU5 BLU (io), GND5 GND (io), GRN6 GRN (io), RED5 RED (io), SIG10 SIG1 (io), SIG11 SIG2 (io)
part G pins: BLU6 BLU (io), GND6 GND (io), GRN5 GRN (io), RED6 RED (io), SIG12 SIG1 (io), SIG13 SIG2 (io)
part H pins: BLU7 BLU (io), GND7 GND (io), GRN7 GRN (io), RED7 RED (io), SIG14 SIG1 (io), SIG15 SIG2 (io)
part I pins: BLU8 BLU (io), GND8 GND (io), GRN8 GRN (io), RED8 RED (io), SIG16 SIG1 (io), SIG17 SIG2 (io)
part J pins: BLU9 BLU (io), GND9 GND (io), GRN9 GRN (io), RED9 RED (io), SIG18 SIG1 (io), SIG19 SIG2 (io)
part K pins: BLU10 BLU (io), GND10 GND (io), GRN10 GRN (io), RED10 RED (io), SIG20 SIG1 (io), SIG21 SIG2 (io)
part L pins: BLU11 BLU (io), GND11 GND (io), GRN11 GRN (io), RED11 RED (io), SIG22 SIG1 (io), SIG23 SIG2 (io)
part M pins: BLU12 BLU (io), GND12 GND (io), GRN12 GRN (io), RED12 RED (io), SIG24 SIG1 (io), SIG25 SIG2 (io)
part N pins: BLU13 BLU (io), GND13 GND (io), GRN13 GRN (io), RED13 RED (io), SIG26 SIG1 (io), SIG27 SIG2 (io)
part O pins: BLU14 BLU (io), GND14 GND (io), GRN14 GRN (io), RED14 RED (io), SIG28 SIG1 (io), SIG29 SIG2 (io)
part P pins: BLU15 BLU (io), GND15 GND (io), GRN15 GRN (io), RED15 RED (io), SIG30 SIG1 (io), SIG31 SIG2 (io)

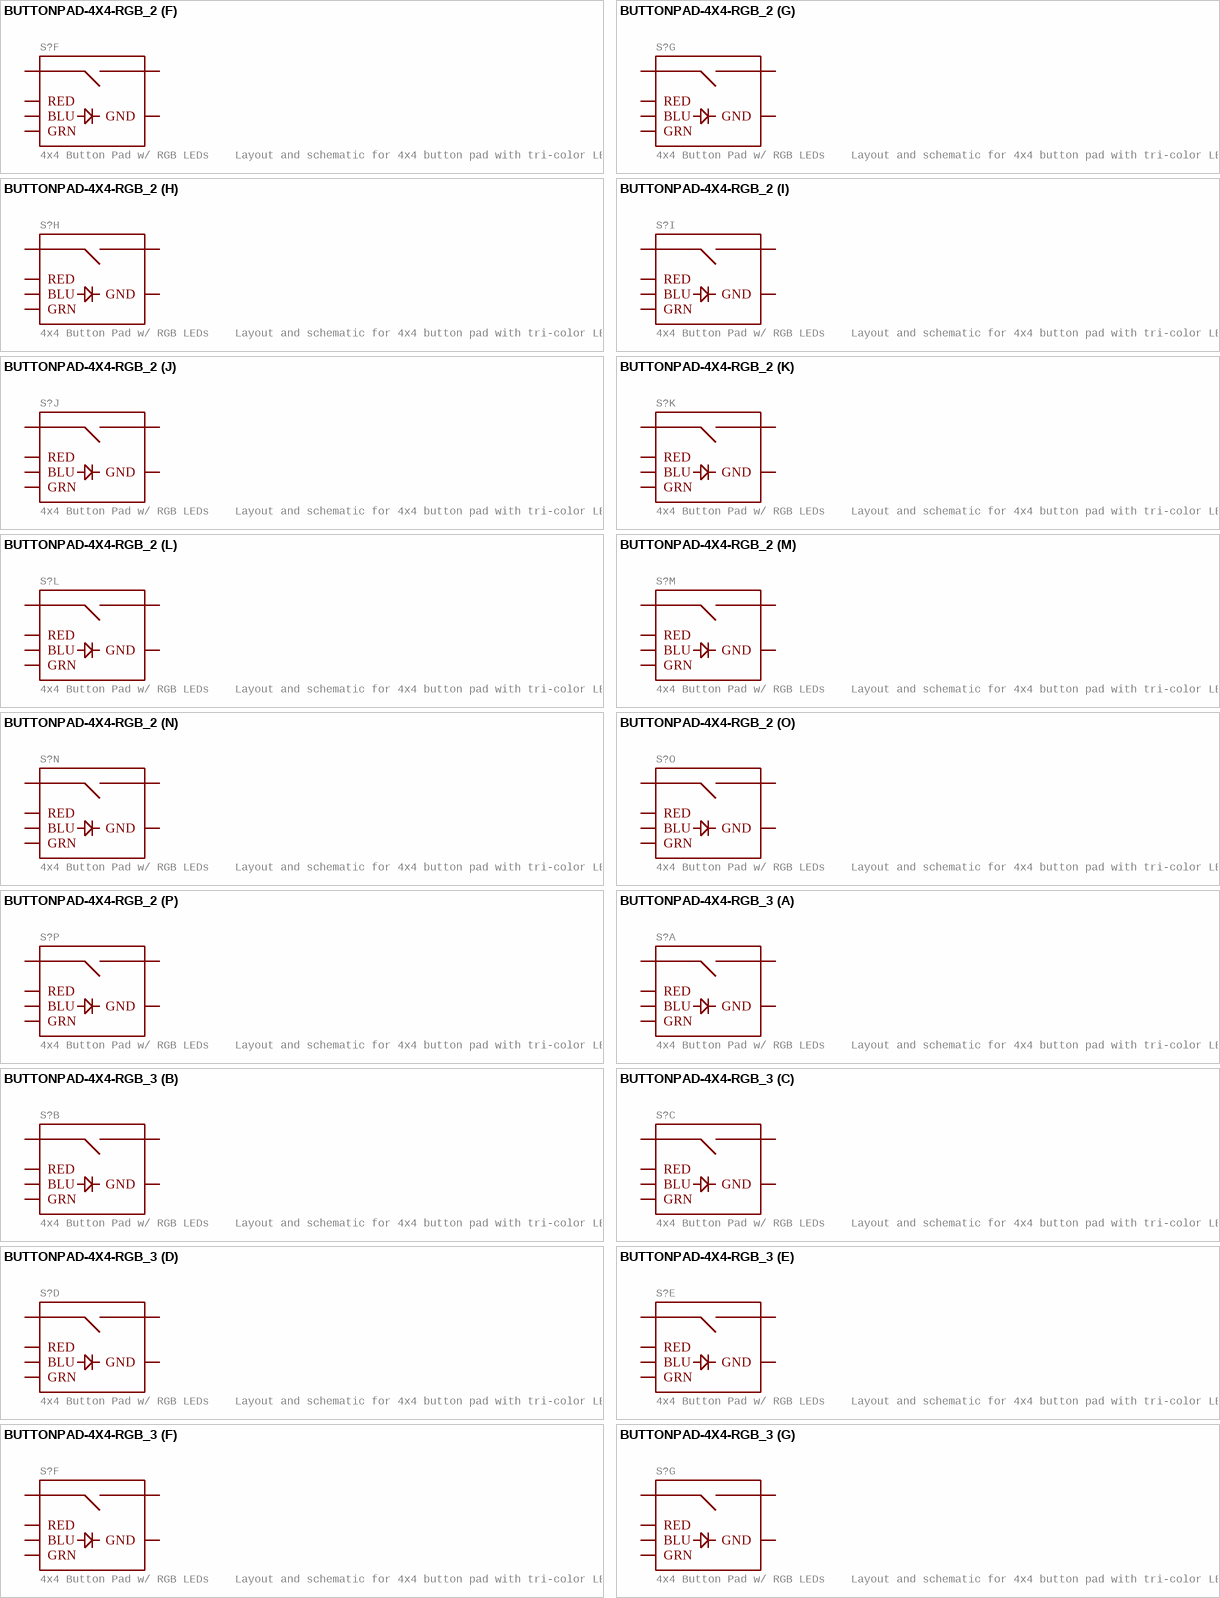
[diagram p20: symbols BUTTONPAD-4X4-RGB_2 to BUTTONPAD-4X4-RGB_3]

## BUTTONPAD-4X4-RGB_2
designator S?, comment 4x4 Button Pad w/ RGB LEDs    Layout and schematic for 4x4 button pad with tri-color LEDs under each button. For use with the 4x Button Pad 2x2 - LED Compatible and 4x Button Pad 2x2 Top Bezel.   Any RGB 5mm LED should be compatible. SparkFun Products  SparkFun Simon Says - Through-Hole Soldering Kit (KIT-10547)  Button Pad 2x2 - Breakout PCB (COM-09277)
GateName_1: G$0; SymbolName_1: BUTTONPAD-RGB; GateName_2: G$1; GateName_3: G$2; GateName_4: G$3; GateName_5: G$4; GateName_6: G$5; GateName_7: G$6; GateName_8: G$7; GateName_9: G$8; GateName_10: G$9; GateName_11: G$10; GateName_12: G$11; GateName_13: G$12; GateName_14: G$13; GateName_15: G$14; GateName_16: G$15; DeviceSetName: BUTTONPAD-4X4-RGB; PROD_ID: COMP-08481; SF_SKU: COM-07836; SymbolName_2: BUTTONPAD-RGB; SymbolName_3: BUTTONPAD-RGB; SymbolName_4: BUTTONPAD-RGB; SymbolName_5: BUTTONPAD-RGB; SymbolName_6: BUTTONPAD-RGB; SymbolName_7: BUTTONPAD-RGB; SymbolName_8: BUTTONPAD-RGB; SymbolName_9: BUTTONPAD-RGB; SymbolName_10: BUTTONPAD-RGB; SymbolName_11: BUTTONPAD-RGB; SymbolName_12: BUTTONPAD-RGB; SymbolName_13: BUTTONPAD-RGB; SymbolName_14: BUTTONPAD-RGB; SymbolName_15: BUTTONPAD-RGB; SymbolName_16: BUTTONPAD-RGB; LibraryName: SparkFun-Switches; Package: BUTTONPAD-4X4
footprint BUTTONPAD-4X4
part A pins: BLU0 BLU (io), GND0 GND (io), GRN0 GRN (io), RED0 RED (io), SIG0 SIG1 (io), SIG1 SIG2 (io)
part B pins: BLU1 BLU (io), GND1 GND (io), GRN1 GRN (io), RED1 RED (io), SIG2 SIG1 (io), SIG3 SIG2 (io)
part C pins: BLU2 BLU (io), GND2 GND (io), GRN2 GRN (io), RED2 RED (io), SIG4 SIG1 (io), SIG5 SIG2 (io)
part D pins: BLU3 BLU (io), GND3 GND (io), GRN3 GRN (io), RED3 RED (io), SIG6 SIG1 (io), SIG7 SIG2 (io)
part E pins: BLU4 BLU (io), GND4 GND (io), GRN4 GRN (io), RED4 RED (io), SIG8 SIG1 (io), SIG9 SIG2 (io)
part F pins: BLU5 BLU (io), GND5 GND (io), GRN6 GRN (io), RED5 RED (io), SIG10 SIG1 (io), SIG11 SIG2 (io)
part G pins: BLU6 BLU (io), GND6 GND (io), GRN5 GRN (io), RED6 RED (io), SIG12 SIG1 (io), SIG13 SIG2 (io)
part H pins: BLU7 BLU (io), GND7 GND (io), GRN7 GRN (io), RED7 RED (io), SIG14 SIG1 (io), SIG15 SIG2 (io)
part I pins: BLU8 BLU (io), GND8 GND (io), GRN8 GRN (io), RED8 RED (io), SIG16 SIG1 (io), SIG17 SIG2 (io)
part J pins: BLU9 BLU (io), GND9 GND (io), GRN9 GRN (io), RED9 RED (io), SIG18 SIG1 (io), SIG19 SIG2 (io)
part K pins: BLU10 BLU (io), GND10 GND (io), GRN10 GRN (io), RED10 RED (io), SIG20 SIG1 (io), SIG21 SIG2 (io)
part L pins: BLU11 BLU (io), GND11 GND (io), GRN11 GRN (io), RED11 RED (io), SIG22 SIG1 (io), SIG23 SIG2 (io)
part M pins: BLU12 BLU (io), GND12 GND (io), GRN12 GRN (io), RED12 RED (io), SIG24 SIG1 (io), SIG25 SIG2 (io)
part N pins: BLU13 BLU (io), GND13 GND (io), GRN13 GRN (io), RED13 RED (io), SIG26 SIG1 (io), SIG27 SIG2 (io)
part O pins: BLU14 BLU (io), GND14 GND (io), GRN14 GRN (io), RED14 RED (io), SIG28 SIG1 (io), SIG29 SIG2 (io)
part P pins: BLU15 BLU (io), GND15 GND (io), GRN15 GRN (io), RED15 RED (io), SIG30 SIG1 (io), SIG31 SIG2 (io)

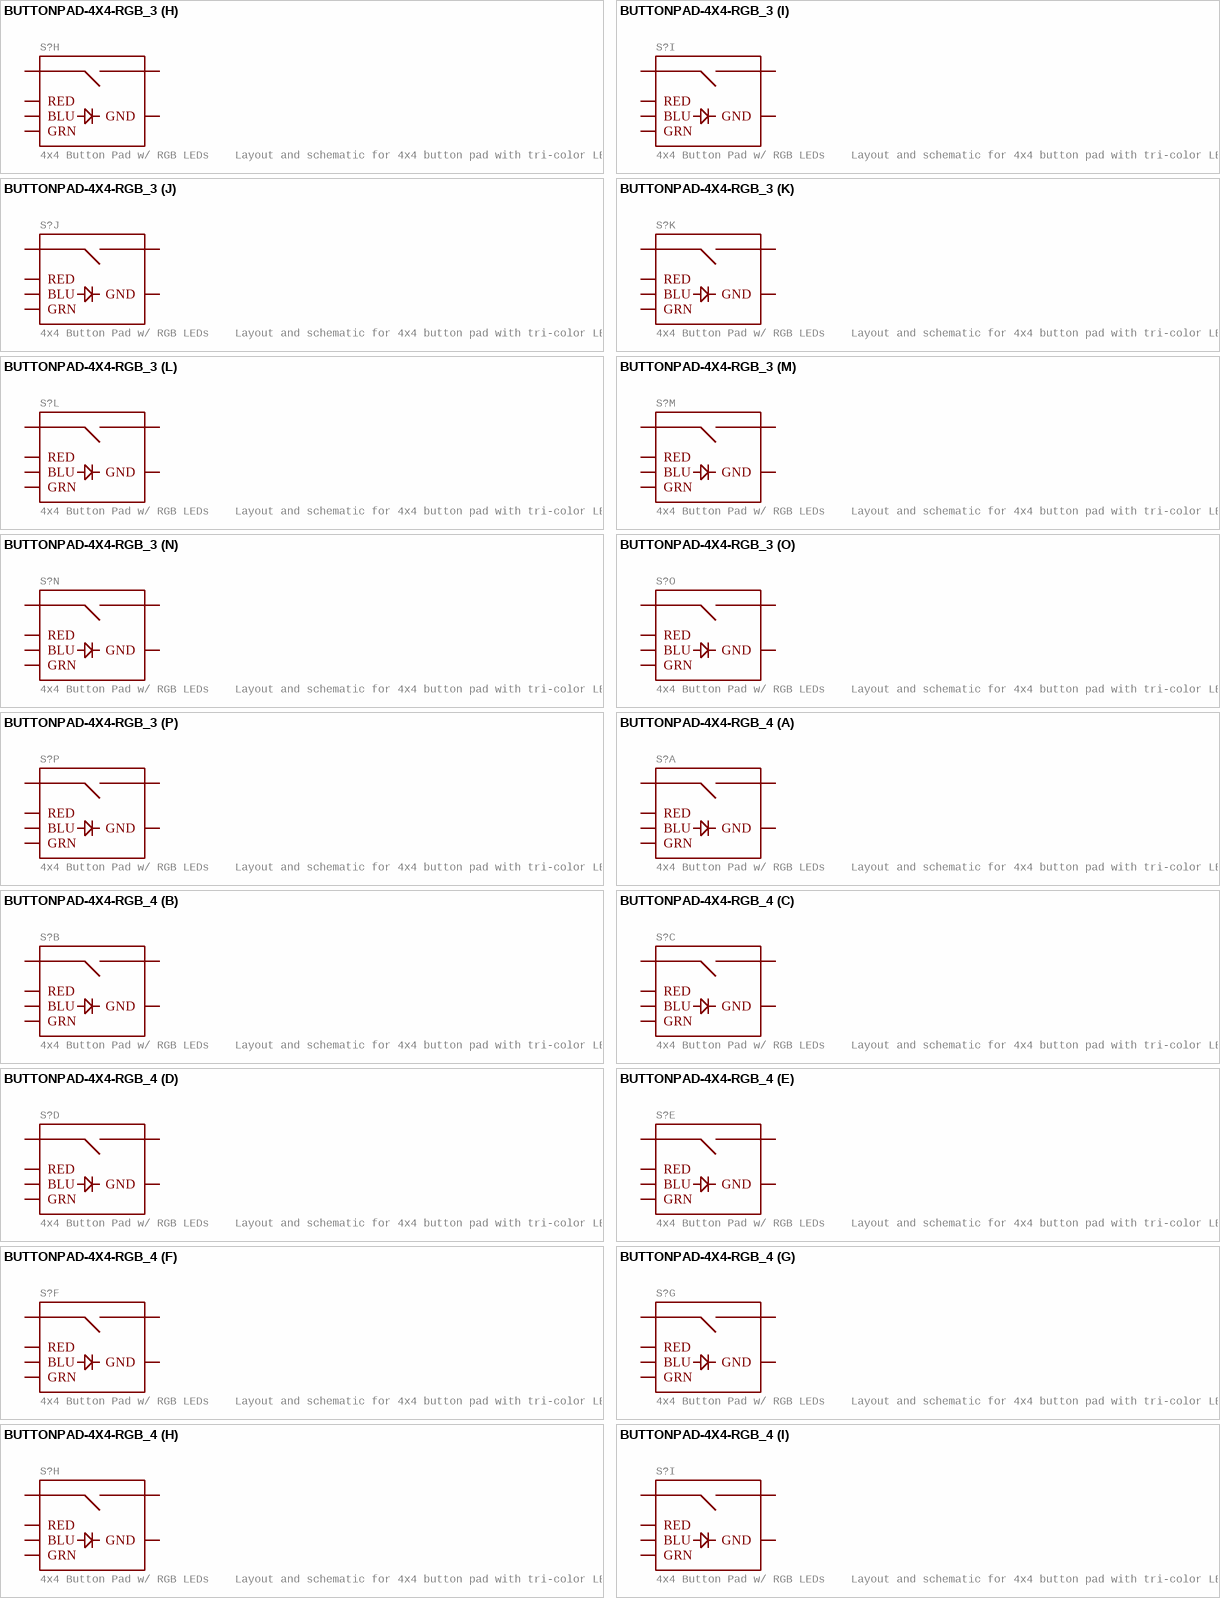
[diagram p21: symbols BUTTONPAD-4X4-RGB_3 to BUTTONPAD-4X4-RGB_4]

## BUTTONPAD-4X4-RGB_3
designator S?, comment 4x4 Button Pad w/ RGB LEDs    Layout and schematic for 4x4 button pad with tri-color LEDs under each button. For use with the 4x Button Pad 2x2 - LED Compatible and 4x Button Pad 2x2 Top Bezel.   Any RGB 5mm LED should be compatible. SparkFun Products  SparkFun Simon Says - Through-Hole Soldering Kit (KIT-10547)  Button Pad 2x2 - Breakout PCB (COM-09277)
GateName_1: G$0; SymbolName_1: BUTTONPAD-RGB; GateName_2: G$1; GateName_3: G$2; GateName_4: G$3; GateName_5: G$4; GateName_6: G$5; GateName_7: G$6; GateName_8: G$7; GateName_9: G$8; GateName_10: G$9; GateName_11: G$10; GateName_12: G$11; GateName_13: G$12; GateName_14: G$13; GateName_15: G$14; GateName_16: G$15; DeviceSetName: BUTTONPAD-4X4-RGB; PROD_ID: COMP-08481; SF_SKU: COM-07836; SymbolName_2: BUTTONPAD-RGB; SymbolName_3: BUTTONPAD-RGB; SymbolName_4: BUTTONPAD-RGB; SymbolName_5: BUTTONPAD-RGB; SymbolName_6: BUTTONPAD-RGB; SymbolName_7: BUTTONPAD-RGB; SymbolName_8: BUTTONPAD-RGB; SymbolName_9: BUTTONPAD-RGB; SymbolName_10: BUTTONPAD-RGB; SymbolName_11: BUTTONPAD-RGB; SymbolName_12: BUTTONPAD-RGB; SymbolName_13: BUTTONPAD-RGB; SymbolName_14: BUTTONPAD-RGB; SymbolName_15: BUTTONPAD-RGB; SymbolName_16: BUTTONPAD-RGB; LibraryName: SparkFun-Switches; Package: BUTTONPAD-4X4
footprint BUTTONPAD-4X4
part A pins: BLU0 BLU (io), GND0 GND (io), GRN0 GRN (io), RED0 RED (io), SIG0 SIG1 (io), SIG1 SIG2 (io)
part B pins: BLU1 BLU (io), GND1 GND (io), GRN1 GRN (io), RED1 RED (io), SIG2 SIG1 (io), SIG3 SIG2 (io)
part C pins: BLU2 BLU (io), GND2 GND (io), GRN2 GRN (io), RED2 RED (io), SIG4 SIG1 (io), SIG5 SIG2 (io)
part D pins: BLU3 BLU (io), GND3 GND (io), GRN3 GRN (io), RED3 RED (io), SIG6 SIG1 (io), SIG7 SIG2 (io)
part E pins: BLU4 BLU (io), GND4 GND (io), GRN4 GRN (io), RED4 RED (io), SIG8 SIG1 (io), SIG9 SIG2 (io)
part F pins: BLU5 BLU (io), GND5 GND (io), GRN6 GRN (io), RED5 RED (io), SIG10 SIG1 (io), SIG11 SIG2 (io)
part G pins: BLU6 BLU (io), GND6 GND (io), GRN5 GRN (io), RED6 RED (io), SIG12 SIG1 (io), SIG13 SIG2 (io)
part H pins: BLU7 BLU (io), GND7 GND (io), GRN7 GRN (io), RED7 RED (io), SIG14 SIG1 (io), SIG15 SIG2 (io)
part I pins: BLU8 BLU (io), GND8 GND (io), GRN8 GRN (io), RED8 RED (io), SIG16 SIG1 (io), SIG17 SIG2 (io)
part J pins: BLU9 BLU (io), GND9 GND (io), GRN9 GRN (io), RED9 RED (io), SIG18 SIG1 (io), SIG19 SIG2 (io)
part K pins: BLU10 BLU (io), GND10 GND (io), GRN10 GRN (io), RED10 RED (io), SIG20 SIG1 (io), SIG21 SIG2 (io)
part L pins: BLU11 BLU (io), GND11 GND (io), GRN11 GRN (io), RED11 RED (io), SIG22 SIG1 (io), SIG23 SIG2 (io)
part M pins: BLU12 BLU (io), GND12 GND (io), GRN12 GRN (io), RED12 RED (io), SIG24 SIG1 (io), SIG25 SIG2 (io)
part N pins: BLU13 BLU (io), GND13 GND (io), GRN13 GRN (io), RED13 RED (io), SIG26 SIG1 (io), SIG27 SIG2 (io)
part O pins: BLU14 BLU (io), GND14 GND (io), GRN14 GRN (io), RED14 RED (io), SIG28 SIG1 (io), SIG29 SIG2 (io)
part P pins: BLU15 BLU (io), GND15 GND (io), GRN15 GRN (io), RED15 RED (io), SIG30 SIG1 (io), SIG31 SIG2 (io)

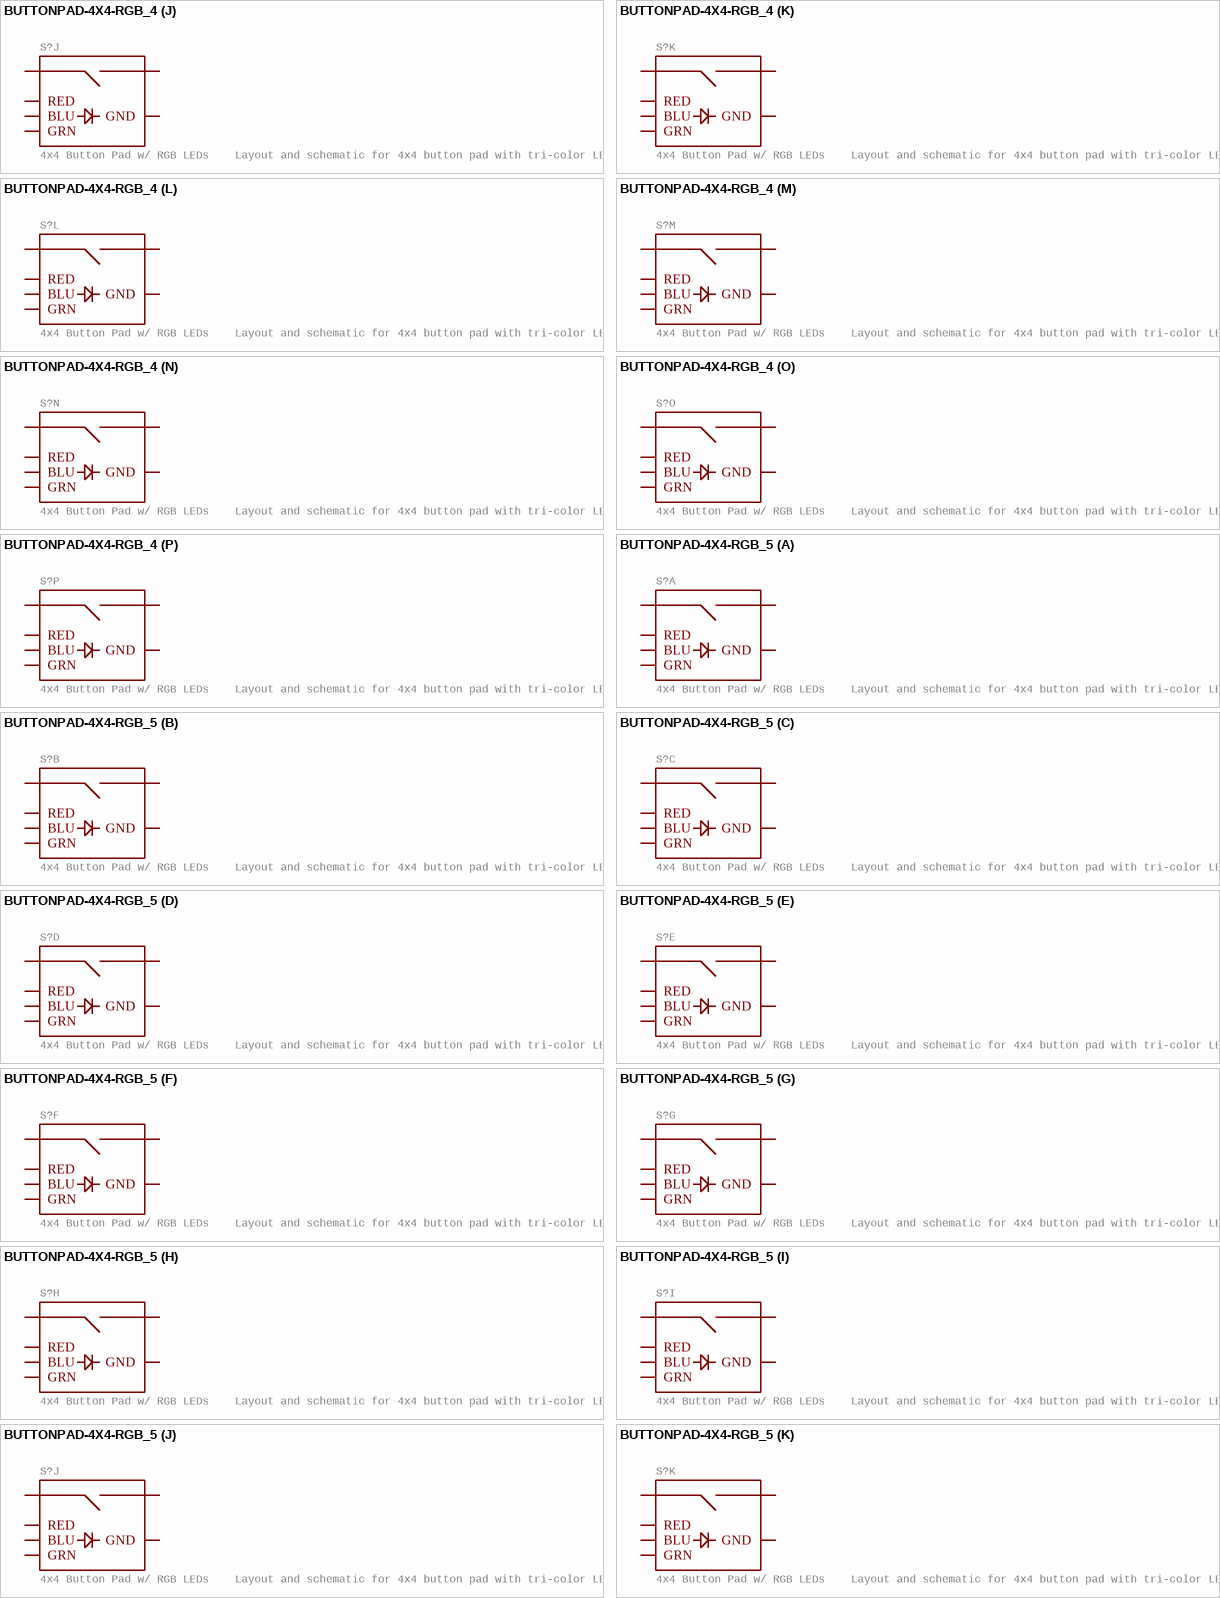
[diagram p22: symbols BUTTONPAD-4X4-RGB_4 to BUTTONPAD-4X4-RGB_5]

## BUTTONPAD-4X4-RGB_4
designator S?, comment 4x4 Button Pad w/ RGB LEDs    Layout and schematic for 4x4 button pad with tri-color LEDs under each button. For use with the 4x Button Pad 2x2 - LED Compatible and 4x Button Pad 2x2 Top Bezel.   Any RGB 5mm LED should be compatible. SparkFun Products  SparkFun Simon Says - Through-Hole Soldering Kit (KIT-10547)  Button Pad 2x2 - Breakout PCB (COM-09277)
GateName_1: G$0; SymbolName_1: BUTTONPAD-RGB; GateName_2: G$1; GateName_3: G$2; GateName_4: G$3; GateName_5: G$4; GateName_6: G$5; GateName_7: G$6; GateName_8: G$7; GateName_9: G$8; GateName_10: G$9; GateName_11: G$10; GateName_12: G$11; GateName_13: G$12; GateName_14: G$13; GateName_15: G$14; GateName_16: G$15; DeviceSetName: BUTTONPAD-4X4-RGB; PROD_ID: COMP-08481; SF_SKU: COM-07836; SymbolName_2: BUTTONPAD-RGB; SymbolName_3: BUTTONPAD-RGB; SymbolName_4: BUTTONPAD-RGB; SymbolName_5: BUTTONPAD-RGB; SymbolName_6: BUTTONPAD-RGB; SymbolName_7: BUTTONPAD-RGB; SymbolName_8: BUTTONPAD-RGB; SymbolName_9: BUTTONPAD-RGB; SymbolName_10: BUTTONPAD-RGB; SymbolName_11: BUTTONPAD-RGB; SymbolName_12: BUTTONPAD-RGB; SymbolName_13: BUTTONPAD-RGB; SymbolName_14: BUTTONPAD-RGB; SymbolName_15: BUTTONPAD-RGB; SymbolName_16: BUTTONPAD-RGB; LibraryName: SparkFun-Switches; Package: BUTTONPAD-4X4
footprint BUTTONPAD-4X4
part A pins: BLU0 BLU (io), GND0 GND (io), GRN0 GRN (io), RED0 RED (io), SIG0 SIG1 (io), SIG1 SIG2 (io)
part B pins: BLU1 BLU (io), GND1 GND (io), GRN1 GRN (io), RED1 RED (io), SIG2 SIG1 (io), SIG3 SIG2 (io)
part C pins: BLU2 BLU (io), GND2 GND (io), GRN2 GRN (io), RED2 RED (io), SIG4 SIG1 (io), SIG5 SIG2 (io)
part D pins: BLU3 BLU (io), GND3 GND (io), GRN3 GRN (io), RED3 RED (io), SIG6 SIG1 (io), SIG7 SIG2 (io)
part E pins: BLU4 BLU (io), GND4 GND (io), GRN4 GRN (io), RED4 RED (io), SIG8 SIG1 (io), SIG9 SIG2 (io)
part F pins: BLU5 BLU (io), GND5 GND (io), GRN6 GRN (io), RED5 RED (io), SIG10 SIG1 (io), SIG11 SIG2 (io)
part G pins: BLU6 BLU (io), GND6 GND (io), GRN5 GRN (io), RED6 RED (io), SIG12 SIG1 (io), SIG13 SIG2 (io)
part H pins: BLU7 BLU (io), GND7 GND (io), GRN7 GRN (io), RED7 RED (io), SIG14 SIG1 (io), SIG15 SIG2 (io)
part I pins: BLU8 BLU (io), GND8 GND (io), GRN8 GRN (io), RED8 RED (io), SIG16 SIG1 (io), SIG17 SIG2 (io)
part J pins: BLU9 BLU (io), GND9 GND (io), GRN9 GRN (io), RED9 RED (io), SIG18 SIG1 (io), SIG19 SIG2 (io)
part K pins: BLU10 BLU (io), GND10 GND (io), GRN10 GRN (io), RED10 RED (io), SIG20 SIG1 (io), SIG21 SIG2 (io)
part L pins: BLU11 BLU (io), GND11 GND (io), GRN11 GRN (io), RED11 RED (io), SIG22 SIG1 (io), SIG23 SIG2 (io)
part M pins: BLU12 BLU (io), GND12 GND (io), GRN12 GRN (io), RED12 RED (io), SIG24 SIG1 (io), SIG25 SIG2 (io)
part N pins: BLU13 BLU (io), GND13 GND (io), GRN13 GRN (io), RED13 RED (io), SIG26 SIG1 (io), SIG27 SIG2 (io)
part O pins: BLU14 BLU (io), GND14 GND (io), GRN14 GRN (io), RED14 RED (io), SIG28 SIG1 (io), SIG29 SIG2 (io)
part P pins: BLU15 BLU (io), GND15 GND (io), GRN15 GRN (io), RED15 RED (io), SIG30 SIG1 (io), SIG31 SIG2 (io)

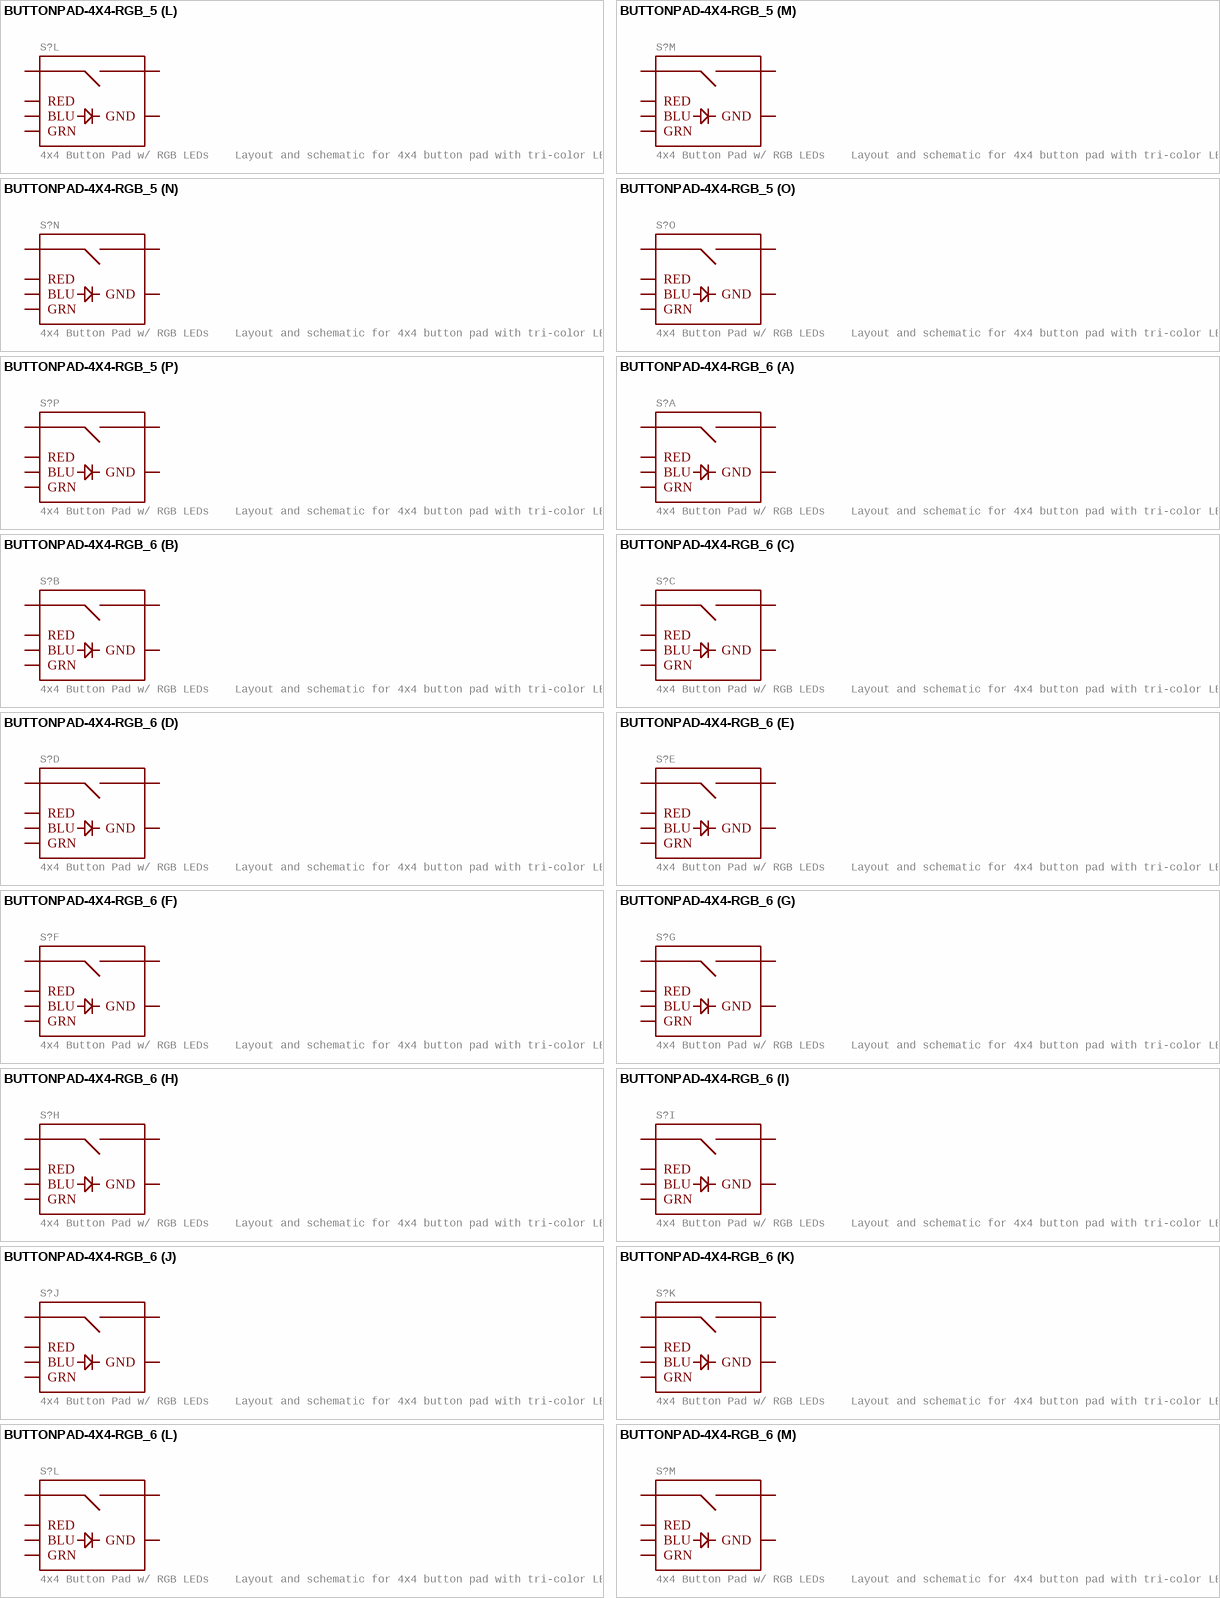
[diagram p23: symbols BUTTONPAD-4X4-RGB_5 to BUTTONPAD-4X4-RGB_6]

## BUTTONPAD-4X4-RGB_5
designator S?, comment 4x4 Button Pad w/ RGB LEDs    Layout and schematic for 4x4 button pad with tri-color LEDs under each button. For use with the 4x Button Pad 2x2 - LED Compatible and 4x Button Pad 2x2 Top Bezel.   Any RGB 5mm LED should be compatible. SparkFun Products  SparkFun Simon Says - Through-Hole Soldering Kit (KIT-10547)  Button Pad 2x2 - Breakout PCB (COM-09277)
GateName_1: G$0; SymbolName_1: BUTTONPAD-RGB; GateName_2: G$1; GateName_3: G$2; GateName_4: G$3; GateName_5: G$4; GateName_6: G$5; GateName_7: G$6; GateName_8: G$7; GateName_9: G$8; GateName_10: G$9; GateName_11: G$10; GateName_12: G$11; GateName_13: G$12; GateName_14: G$13; GateName_15: G$14; GateName_16: G$15; DeviceSetName: BUTTONPAD-4X4-RGB; PROD_ID: COMP-08481; SF_SKU: COM-07836; SymbolName_2: BUTTONPAD-RGB; SymbolName_3: BUTTONPAD-RGB; SymbolName_4: BUTTONPAD-RGB; SymbolName_5: BUTTONPAD-RGB; SymbolName_6: BUTTONPAD-RGB; SymbolName_7: BUTTONPAD-RGB; SymbolName_8: BUTTONPAD-RGB; SymbolName_9: BUTTONPAD-RGB; SymbolName_10: BUTTONPAD-RGB; SymbolName_11: BUTTONPAD-RGB; SymbolName_12: BUTTONPAD-RGB; SymbolName_13: BUTTONPAD-RGB; SymbolName_14: BUTTONPAD-RGB; SymbolName_15: BUTTONPAD-RGB; SymbolName_16: BUTTONPAD-RGB; LibraryName: SparkFun-Switches; Package: BUTTONPAD-4X4
footprint BUTTONPAD-4X4
part A pins: BLU0 BLU (io), GND0 GND (io), GRN0 GRN (io), RED0 RED (io), SIG0 SIG1 (io), SIG1 SIG2 (io)
part B pins: BLU1 BLU (io), GND1 GND (io), GRN1 GRN (io), RED1 RED (io), SIG2 SIG1 (io), SIG3 SIG2 (io)
part C pins: BLU2 BLU (io), GND2 GND (io), GRN2 GRN (io), RED2 RED (io), SIG4 SIG1 (io), SIG5 SIG2 (io)
part D pins: BLU3 BLU (io), GND3 GND (io), GRN3 GRN (io), RED3 RED (io), SIG6 SIG1 (io), SIG7 SIG2 (io)
part E pins: BLU4 BLU (io), GND4 GND (io), GRN4 GRN (io), RED4 RED (io), SIG8 SIG1 (io), SIG9 SIG2 (io)
part F pins: BLU5 BLU (io), GND5 GND (io), GRN6 GRN (io), RED5 RED (io), SIG10 SIG1 (io), SIG11 SIG2 (io)
part G pins: BLU6 BLU (io), GND6 GND (io), GRN5 GRN (io), RED6 RED (io), SIG12 SIG1 (io), SIG13 SIG2 (io)
part H pins: BLU7 BLU (io), GND7 GND (io), GRN7 GRN (io), RED7 RED (io), SIG14 SIG1 (io), SIG15 SIG2 (io)
part I pins: BLU8 BLU (io), GND8 GND (io), GRN8 GRN (io), RED8 RED (io), SIG16 SIG1 (io), SIG17 SIG2 (io)
part J pins: BLU9 BLU (io), GND9 GND (io), GRN9 GRN (io), RED9 RED (io), SIG18 SIG1 (io), SIG19 SIG2 (io)
part K pins: BLU10 BLU (io), GND10 GND (io), GRN10 GRN (io), RED10 RED (io), SIG20 SIG1 (io), SIG21 SIG2 (io)
part L pins: BLU11 BLU (io), GND11 GND (io), GRN11 GRN (io), RED11 RED (io), SIG22 SIG1 (io), SIG23 SIG2 (io)
part M pins: BLU12 BLU (io), GND12 GND (io), GRN12 GRN (io), RED12 RED (io), SIG24 SIG1 (io), SIG25 SIG2 (io)
part N pins: BLU13 BLU (io), GND13 GND (io), GRN13 GRN (io), RED13 RED (io), SIG26 SIG1 (io), SIG27 SIG2 (io)
part O pins: BLU14 BLU (io), GND14 GND (io), GRN14 GRN (io), RED14 RED (io), SIG28 SIG1 (io), SIG29 SIG2 (io)
part P pins: BLU15 BLU (io), GND15 GND (io), GRN15 GRN (io), RED15 RED (io), SIG30 SIG1 (io), SIG31 SIG2 (io)

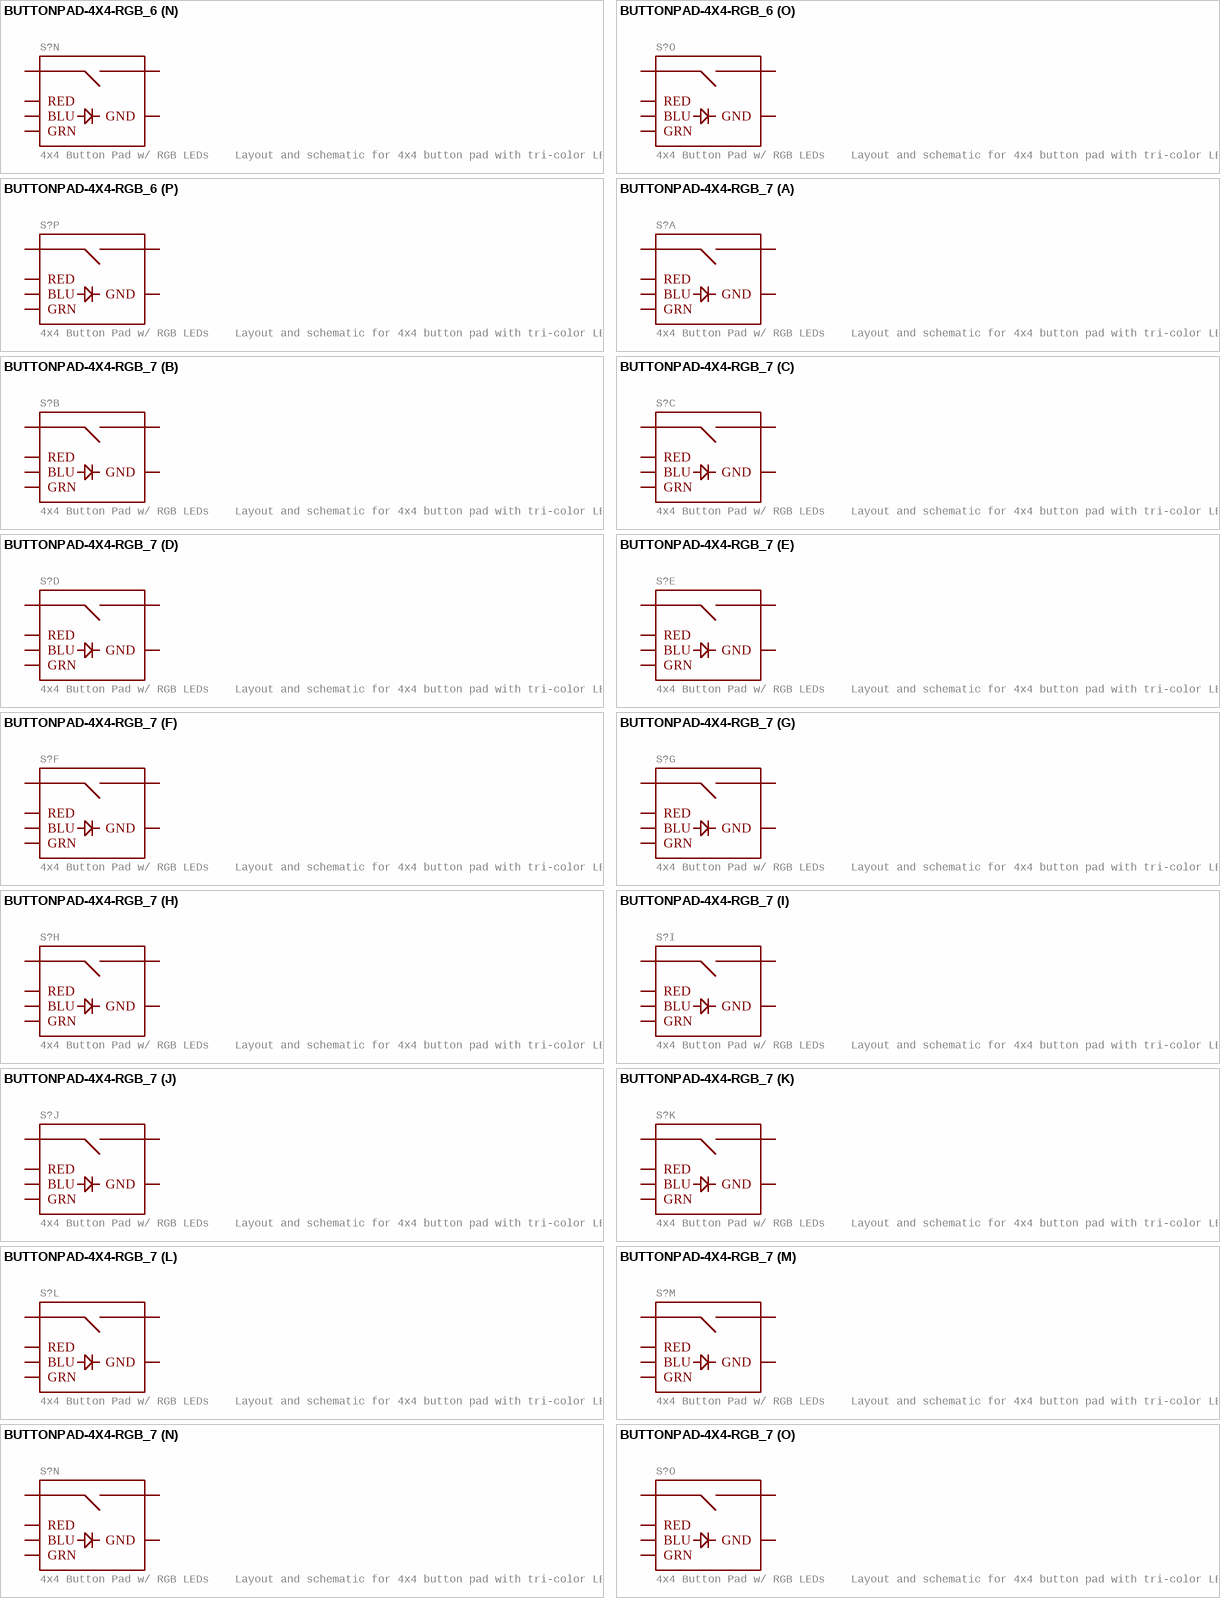
[diagram p24: symbols BUTTONPAD-4X4-RGB_6 to BUTTONPAD-4X4-RGB_7]

## BUTTONPAD-4X4-RGB_6
designator S?, comment 4x4 Button Pad w/ RGB LEDs    Layout and schematic for 4x4 button pad with tri-color LEDs under each button. For use with the 4x Button Pad 2x2 - LED Compatible and 4x Button Pad 2x2 Top Bezel.   Any RGB 5mm LED should be compatible. SparkFun Products  SparkFun Simon Says - Through-Hole Soldering Kit (KIT-10547)  Button Pad 2x2 - Breakout PCB (COM-09277)
GateName_1: G$0; SymbolName_1: BUTTONPAD-RGB; GateName_2: G$1; GateName_3: G$2; GateName_4: G$3; GateName_5: G$4; GateName_6: G$5; GateName_7: G$6; GateName_8: G$7; GateName_9: G$8; GateName_10: G$9; GateName_11: G$10; GateName_12: G$11; GateName_13: G$12; GateName_14: G$13; GateName_15: G$14; GateName_16: G$15; DeviceSetName: BUTTONPAD-4X4-RGB; PROD_ID: COMP-08481; SF_SKU: COM-07836; SymbolName_2: BUTTONPAD-RGB; SymbolName_3: BUTTONPAD-RGB; SymbolName_4: BUTTONPAD-RGB; SymbolName_5: BUTTONPAD-RGB; SymbolName_6: BUTTONPAD-RGB; SymbolName_7: BUTTONPAD-RGB; SymbolName_8: BUTTONPAD-RGB; SymbolName_9: BUTTONPAD-RGB; SymbolName_10: BUTTONPAD-RGB; SymbolName_11: BUTTONPAD-RGB; SymbolName_12: BUTTONPAD-RGB; SymbolName_13: BUTTONPAD-RGB; SymbolName_14: BUTTONPAD-RGB; SymbolName_15: BUTTONPAD-RGB; SymbolName_16: BUTTONPAD-RGB; LibraryName: SparkFun-Switches; Package: BUTTONPAD-4X4
footprint BUTTONPAD-4X4
part A pins: BLU0 BLU (io), GND0 GND (io), GRN0 GRN (io), RED0 RED (io), SIG0 SIG1 (io), SIG1 SIG2 (io)
part B pins: BLU1 BLU (io), GND1 GND (io), GRN1 GRN (io), RED1 RED (io), SIG2 SIG1 (io), SIG3 SIG2 (io)
part C pins: BLU2 BLU (io), GND2 GND (io), GRN2 GRN (io), RED2 RED (io), SIG4 SIG1 (io), SIG5 SIG2 (io)
part D pins: BLU3 BLU (io), GND3 GND (io), GRN3 GRN (io), RED3 RED (io), SIG6 SIG1 (io), SIG7 SIG2 (io)
part E pins: BLU4 BLU (io), GND4 GND (io), GRN4 GRN (io), RED4 RED (io), SIG8 SIG1 (io), SIG9 SIG2 (io)
part F pins: BLU5 BLU (io), GND5 GND (io), GRN6 GRN (io), RED5 RED (io), SIG10 SIG1 (io), SIG11 SIG2 (io)
part G pins: BLU6 BLU (io), GND6 GND (io), GRN5 GRN (io), RED6 RED (io), SIG12 SIG1 (io), SIG13 SIG2 (io)
part H pins: BLU7 BLU (io), GND7 GND (io), GRN7 GRN (io), RED7 RED (io), SIG14 SIG1 (io), SIG15 SIG2 (io)
part I pins: BLU8 BLU (io), GND8 GND (io), GRN8 GRN (io), RED8 RED (io), SIG16 SIG1 (io), SIG17 SIG2 (io)
part J pins: BLU9 BLU (io), GND9 GND (io), GRN9 GRN (io), RED9 RED (io), SIG18 SIG1 (io), SIG19 SIG2 (io)
part K pins: BLU10 BLU (io), GND10 GND (io), GRN10 GRN (io), RED10 RED (io), SIG20 SIG1 (io), SIG21 SIG2 (io)
part L pins: BLU11 BLU (io), GND11 GND (io), GRN11 GRN (io), RED11 RED (io), SIG22 SIG1 (io), SIG23 SIG2 (io)
part M pins: BLU12 BLU (io), GND12 GND (io), GRN12 GRN (io), RED12 RED (io), SIG24 SIG1 (io), SIG25 SIG2 (io)
part N pins: BLU13 BLU (io), GND13 GND (io), GRN13 GRN (io), RED13 RED (io), SIG26 SIG1 (io), SIG27 SIG2 (io)
part O pins: BLU14 BLU (io), GND14 GND (io), GRN14 GRN (io), RED14 RED (io), SIG28 SIG1 (io), SIG29 SIG2 (io)
part P pins: BLU15 BLU (io), GND15 GND (io), GRN15 GRN (io), RED15 RED (io), SIG30 SIG1 (io), SIG31 SIG2 (io)

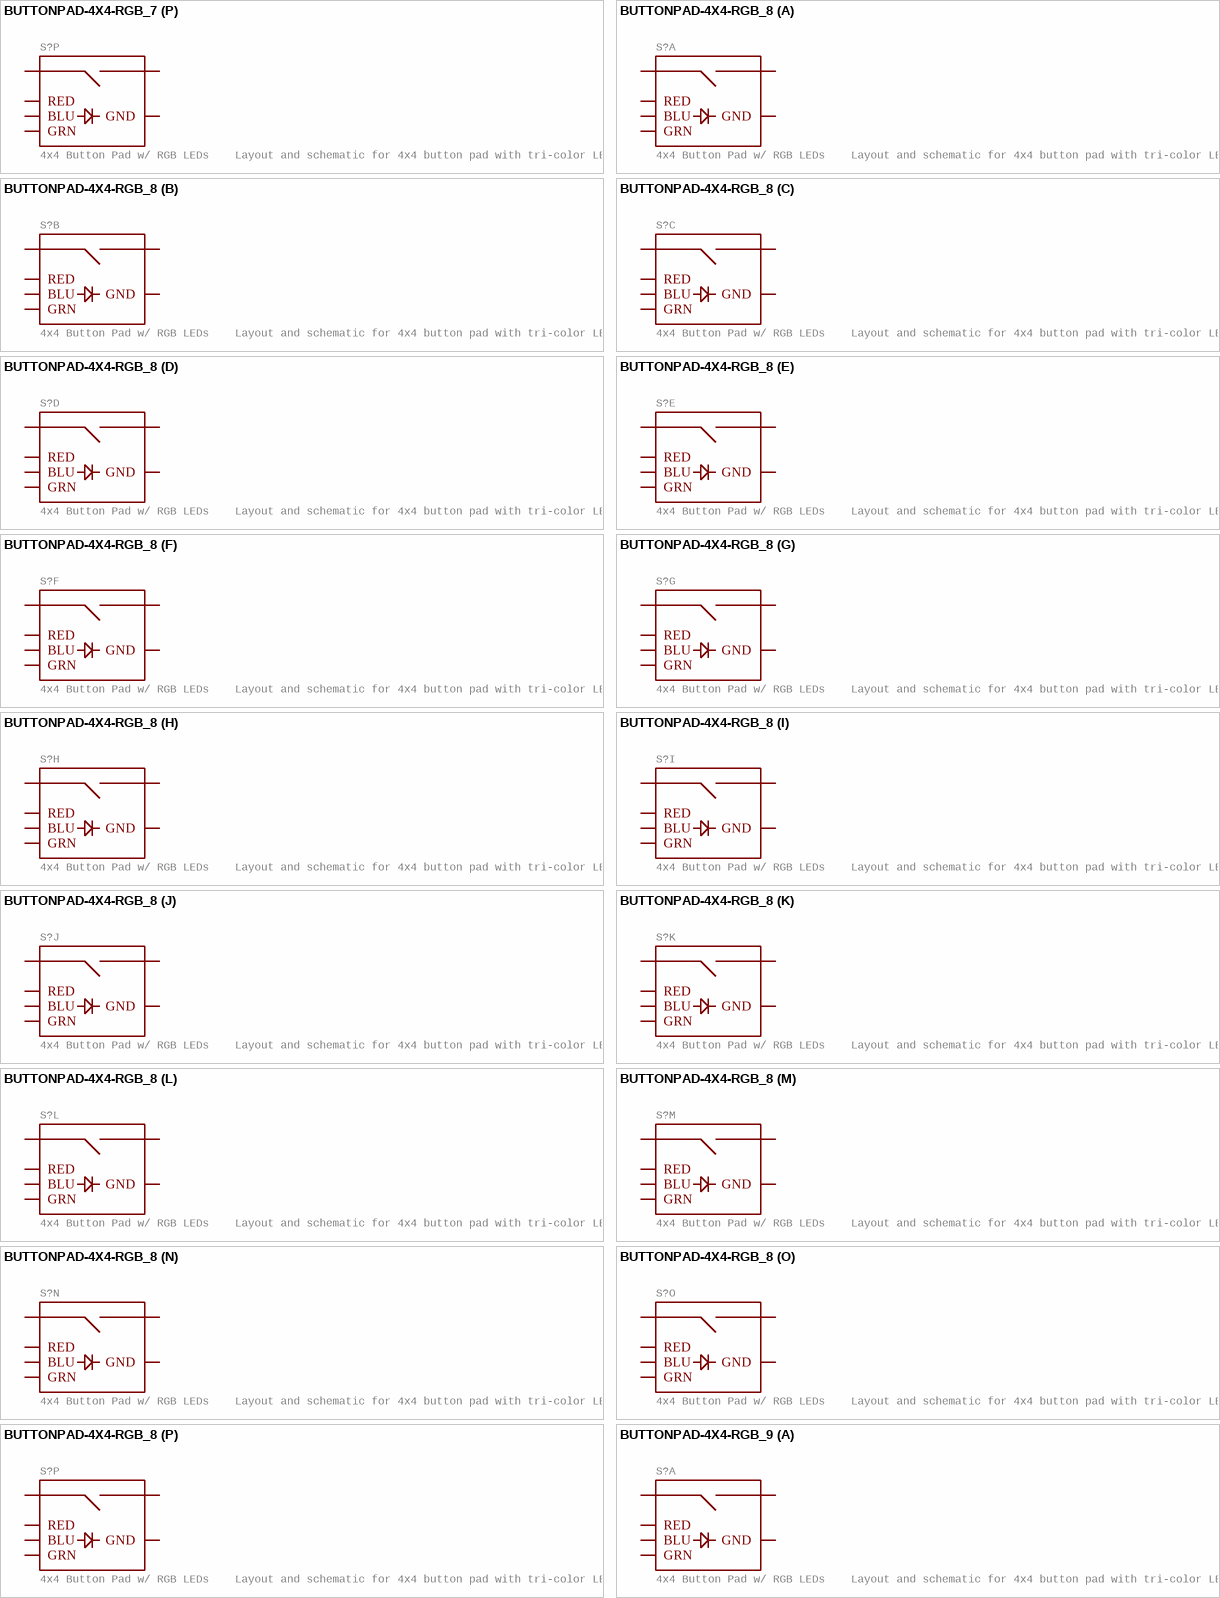
[diagram p25: symbols BUTTONPAD-4X4-RGB_7 to BUTTONPAD-4X4-RGB_9]

## BUTTONPAD-4X4-RGB_7
designator S?, comment 4x4 Button Pad w/ RGB LEDs    Layout and schematic for 4x4 button pad with tri-color LEDs under each button. For use with the 4x Button Pad 2x2 - LED Compatible and 4x Button Pad 2x2 Top Bezel.   Any RGB 5mm LED should be compatible. SparkFun Products  SparkFun Simon Says - Through-Hole Soldering Kit (KIT-10547)  Button Pad 2x2 - Breakout PCB (COM-09277)
GateName_1: G$0; SymbolName_1: BUTTONPAD-RGB; GateName_2: G$1; GateName_3: G$2; GateName_4: G$3; GateName_5: G$4; GateName_6: G$5; GateName_7: G$6; GateName_8: G$7; GateName_9: G$8; GateName_10: G$9; GateName_11: G$10; GateName_12: G$11; GateName_13: G$12; GateName_14: G$13; GateName_15: G$14; GateName_16: G$15; DeviceSetName: BUTTONPAD-4X4-RGB; PROD_ID: COMP-08481; SF_SKU: COM-07836; SymbolName_2: BUTTONPAD-RGB; SymbolName_3: BUTTONPAD-RGB; SymbolName_4: BUTTONPAD-RGB; SymbolName_5: BUTTONPAD-RGB; SymbolName_6: BUTTONPAD-RGB; SymbolName_7: BUTTONPAD-RGB; SymbolName_8: BUTTONPAD-RGB; SymbolName_9: BUTTONPAD-RGB; SymbolName_10: BUTTONPAD-RGB; SymbolName_11: BUTTONPAD-RGB; SymbolName_12: BUTTONPAD-RGB; SymbolName_13: BUTTONPAD-RGB; SymbolName_14: BUTTONPAD-RGB; SymbolName_15: BUTTONPAD-RGB; SymbolName_16: BUTTONPAD-RGB; LibraryName: SparkFun-Switches; Package: BUTTONPAD-4X4
footprint BUTTONPAD-4X4
part A pins: BLU0 BLU (io), GND0 GND (io), GRN0 GRN (io), RED0 RED (io), SIG0 SIG1 (io), SIG1 SIG2 (io)
part B pins: BLU1 BLU (io), GND1 GND (io), GRN1 GRN (io), RED1 RED (io), SIG2 SIG1 (io), SIG3 SIG2 (io)
part C pins: BLU2 BLU (io), GND2 GND (io), GRN2 GRN (io), RED2 RED (io), SIG4 SIG1 (io), SIG5 SIG2 (io)
part D pins: BLU3 BLU (io), GND3 GND (io), GRN3 GRN (io), RED3 RED (io), SIG6 SIG1 (io), SIG7 SIG2 (io)
part E pins: BLU4 BLU (io), GND4 GND (io), GRN4 GRN (io), RED4 RED (io), SIG8 SIG1 (io), SIG9 SIG2 (io)
part F pins: BLU5 BLU (io), GND5 GND (io), GRN6 GRN (io), RED5 RED (io), SIG10 SIG1 (io), SIG11 SIG2 (io)
part G pins: BLU6 BLU (io), GND6 GND (io), GRN5 GRN (io), RED6 RED (io), SIG12 SIG1 (io), SIG13 SIG2 (io)
part H pins: BLU7 BLU (io), GND7 GND (io), GRN7 GRN (io), RED7 RED (io), SIG14 SIG1 (io), SIG15 SIG2 (io)
part I pins: BLU8 BLU (io), GND8 GND (io), GRN8 GRN (io), RED8 RED (io), SIG16 SIG1 (io), SIG17 SIG2 (io)
part J pins: BLU9 BLU (io), GND9 GND (io), GRN9 GRN (io), RED9 RED (io), SIG18 SIG1 (io), SIG19 SIG2 (io)
part K pins: BLU10 BLU (io), GND10 GND (io), GRN10 GRN (io), RED10 RED (io), SIG20 SIG1 (io), SIG21 SIG2 (io)
part L pins: BLU11 BLU (io), GND11 GND (io), GRN11 GRN (io), RED11 RED (io), SIG22 SIG1 (io), SIG23 SIG2 (io)
part M pins: BLU12 BLU (io), GND12 GND (io), GRN12 GRN (io), RED12 RED (io), SIG24 SIG1 (io), SIG25 SIG2 (io)
part N pins: BLU13 BLU (io), GND13 GND (io), GRN13 GRN (io), RED13 RED (io), SIG26 SIG1 (io), SIG27 SIG2 (io)
part O pins: BLU14 BLU (io), GND14 GND (io), GRN14 GRN (io), RED14 RED (io), SIG28 SIG1 (io), SIG29 SIG2 (io)
part P pins: BLU15 BLU (io), GND15 GND (io), GRN15 GRN (io), RED15 RED (io), SIG30 SIG1 (io), SIG31 SIG2 (io)

## BUTTONPAD-4X4-RGB_8
designator S?, comment 4x4 Button Pad w/ RGB LEDs    Layout and schematic for 4x4 button pad with tri-color LEDs under each button. For use with the 4x Button Pad 2x2 - LED Compatible and 4x Button Pad 2x2 Top Bezel.   Any RGB 5mm LED should be compatible. SparkFun Products  SparkFun Simon Says - Through-Hole Soldering Kit (KIT-10547)  Button Pad 2x2 - Breakout PCB (COM-09277)
GateName_1: G$0; SymbolName_1: BUTTONPAD-RGB; GateName_2: G$1; GateName_3: G$2; GateName_4: G$3; GateName_5: G$4; GateName_6: G$5; GateName_7: G$6; GateName_8: G$7; GateName_9: G$8; GateName_10: G$9; GateName_11: G$10; GateName_12: G$11; GateName_13: G$12; GateName_14: G$13; GateName_15: G$14; GateName_16: G$15; DeviceSetName: BUTTONPAD-4X4-RGB; PROD_ID: COMP-08481; SF_SKU: COM-07836; SymbolName_2: BUTTONPAD-RGB; SymbolName_3: BUTTONPAD-RGB; SymbolName_4: BUTTONPAD-RGB; SymbolName_5: BUTTONPAD-RGB; SymbolName_6: BUTTONPAD-RGB; SymbolName_7: BUTTONPAD-RGB; SymbolName_8: BUTTONPAD-RGB; SymbolName_9: BUTTONPAD-RGB; SymbolName_10: BUTTONPAD-RGB; SymbolName_11: BUTTONPAD-RGB; SymbolName_12: BUTTONPAD-RGB; SymbolName_13: BUTTONPAD-RGB; SymbolName_14: BUTTONPAD-RGB; SymbolName_15: BUTTONPAD-RGB; SymbolName_16: BUTTONPAD-RGB; LibraryName: SparkFun-Switches; Package: BUTTONPAD-4X4
footprint BUTTONPAD-4X4
part A pins: BLU0 BLU (io), GND0 GND (io), GRN0 GRN (io), RED0 RED (io), SIG0 SIG1 (io), SIG1 SIG2 (io)
part B pins: BLU1 BLU (io), GND1 GND (io), GRN1 GRN (io), RED1 RED (io), SIG2 SIG1 (io), SIG3 SIG2 (io)
part C pins: BLU2 BLU (io), GND2 GND (io), GRN2 GRN (io), RED2 RED (io), SIG4 SIG1 (io), SIG5 SIG2 (io)
part D pins: BLU3 BLU (io), GND3 GND (io), GRN3 GRN (io), RED3 RED (io), SIG6 SIG1 (io), SIG7 SIG2 (io)
part E pins: BLU4 BLU (io), GND4 GND (io), GRN4 GRN (io), RED4 RED (io), SIG8 SIG1 (io), SIG9 SIG2 (io)
part F pins: BLU5 BLU (io), GND5 GND (io), GRN6 GRN (io), RED5 RED (io), SIG10 SIG1 (io), SIG11 SIG2 (io)
part G pins: BLU6 BLU (io), GND6 GND (io), GRN5 GRN (io), RED6 RED (io), SIG12 SIG1 (io), SIG13 SIG2 (io)
part H pins: BLU7 BLU (io), GND7 GND (io), GRN7 GRN (io), RED7 RED (io), SIG14 SIG1 (io), SIG15 SIG2 (io)
part I pins: BLU8 BLU (io), GND8 GND (io), GRN8 GRN (io), RED8 RED (io), SIG16 SIG1 (io), SIG17 SIG2 (io)
part J pins: BLU9 BLU (io), GND9 GND (io), GRN9 GRN (io), RED9 RED (io), SIG18 SIG1 (io), SIG19 SIG2 (io)
part K pins: BLU10 BLU (io), GND10 GND (io), GRN10 GRN (io), RED10 RED (io), SIG20 SIG1 (io), SIG21 SIG2 (io)
part L pins: BLU11 BLU (io), GND11 GND (io), GRN11 GRN (io), RED11 RED (io), SIG22 SIG1 (io), SIG23 SIG2 (io)
part M pins: BLU12 BLU (io), GND12 GND (io), GRN12 GRN (io), RED12 RED (io), SIG24 SIG1 (io), SIG25 SIG2 (io)
part N pins: BLU13 BLU (io), GND13 GND (io), GRN13 GRN (io), RED13 RED (io), SIG26 SIG1 (io), SIG27 SIG2 (io)
part O pins: BLU14 BLU (io), GND14 GND (io), GRN14 GRN (io), RED14 RED (io), SIG28 SIG1 (io), SIG29 SIG2 (io)
part P pins: BLU15 BLU (io), GND15 GND (io), GRN15 GRN (io), RED15 RED (io), SIG30 SIG1 (io), SIG31 SIG2 (io)

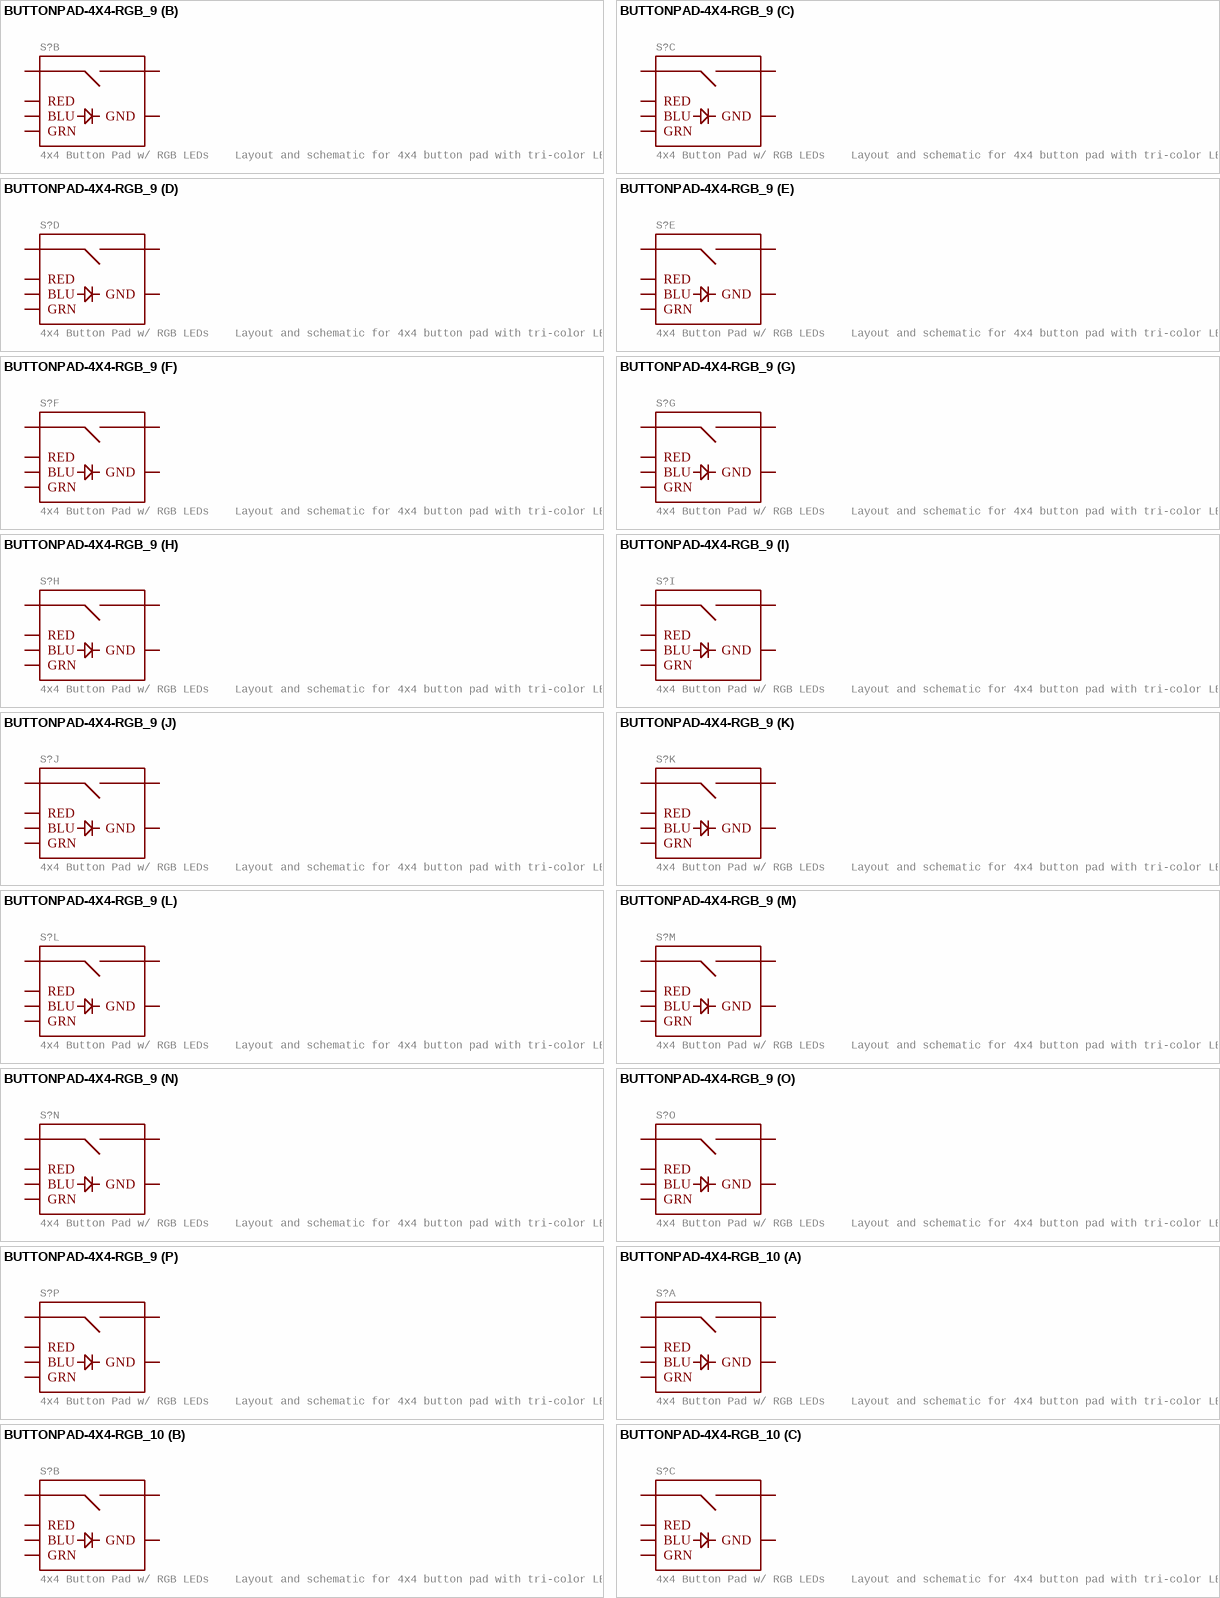
[diagram p26: symbols BUTTONPAD-4X4-RGB_9 to BUTTONPAD-4X4-RGB_10]